# Altium schematic symbol library MCU_NXP_Kinetis.SchLib: 155 symbols (part 1 of 4)
Pins are listed as number, name and electrical type; pins without a type are passive.

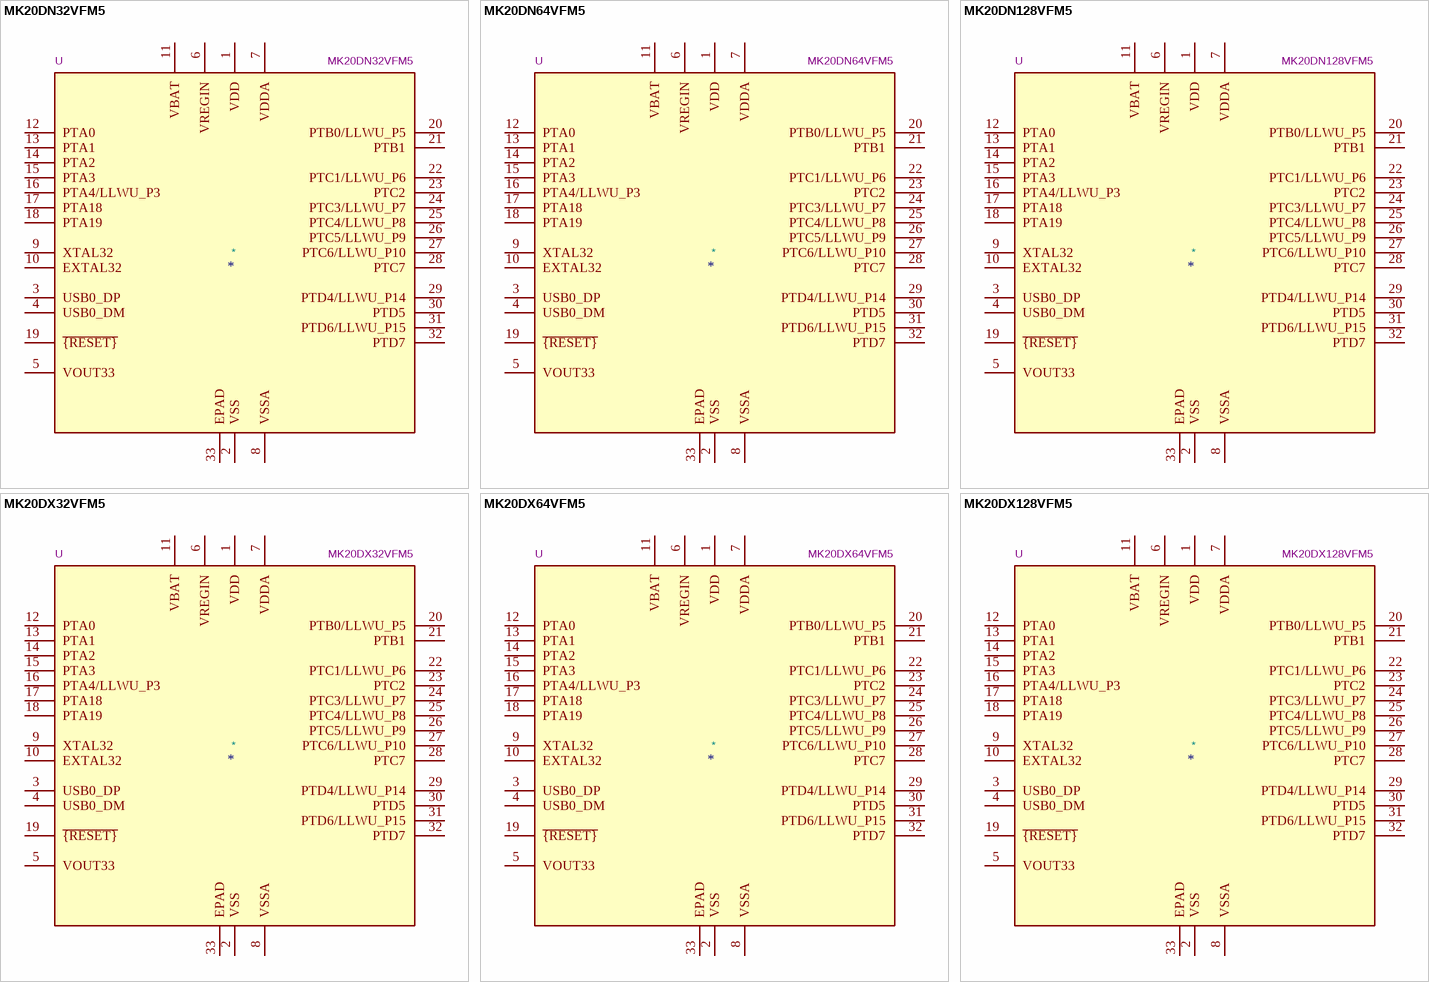
[diagram p0: symbols MK20DN32VFM5 to MK20DX128VFM5]

## MK20DN32VFM5
designator *  value MK20DN32VFM5  Reference: U
ki_keywords: Kinetis KL27 ARM Cortex M4; ki_description: Kinetis K20 series, 50-MHz/32-bit ARM Cortex-M4, 32 kB flash, 8 kB SRAM, USB FS Device/OTG, QFN-32; ki_fp_filters: QFN*5x5mm*P0.5mm*; Footprint: Package_DFN_QFN:QFN-32-1EP_5x5mm_P0.5mm_EP3.45x3.45mm; Datasheet: http://www.nxp.com/docs/en/data-sheet/K20P32M50SF0.pdf
pins: 1 VDD, 2 VSS, 3 USB0_DP, 4 USB0_DM, 5 VOUT33, 6 VREGIN, 7 VDDA, 8 VSSA, 9 XTAL32, 10 EXTAL32, 11 VBAT, 12 PTA0, 13 PTA1, 14 PTA2, 15 PTA3, 16 PTA4/LLWU_P3, 17 PTA18, 18 PTA19, 19 ~{{RESET}}, 20 PTB0/LLWU_P5, 21 PTB1, 22 PTC1/LLWU_P6, 23 PTC2, 24 PTC3/LLWU_P7, 25 PTC4/LLWU_P8, 26 PTC5/LLWU_P9, 27 PTC6/LLWU_P10, 28 PTC7, 29 PTD4/LLWU_P14, 30 PTD5, 31 PTD6/LLWU_P15, 32 PTD7, 33 EPAD

## MK20DN64VFM5
designator *  value MK20DN64VFM5  Reference: U
ki_keywords: Kinetis KL27 ARM Cortex M4; ki_description: Kinetis K20 series, 50-MHz/32-bit ARM Cortex-M4, 64 kB flash, 16 kB SRAM, USB FS Device/OTG, QFN-32; ki_fp_filters: QFN*5x5mm*P0.5mm*; Footprint: Package_DFN_QFN:QFN-32-1EP_5x5mm_P0.5mm_EP3.45x3.45mm; Datasheet: http://www.nxp.com/docs/en/data-sheet/K20P32M50SF0.pdf
pins: 1 VDD, 2 VSS, 3 USB0_DP, 4 USB0_DM, 5 VOUT33, 6 VREGIN, 7 VDDA, 8 VSSA, 9 XTAL32, 10 EXTAL32, 11 VBAT, 12 PTA0, 13 PTA1, 14 PTA2, 15 PTA3, 16 PTA4/LLWU_P3, 17 PTA18, 18 PTA19, 19 ~{{RESET}}, 20 PTB0/LLWU_P5, 21 PTB1, 22 PTC1/LLWU_P6, 23 PTC2, 24 PTC3/LLWU_P7, 25 PTC4/LLWU_P8, 26 PTC5/LLWU_P9, 27 PTC6/LLWU_P10, 28 PTC7, 29 PTD4/LLWU_P14, 30 PTD5, 31 PTD6/LLWU_P15, 32 PTD7, 33 EPAD

## MK20DN128VFM5
designator *  value MK20DN128VFM5  Reference: U
ki_keywords: Kinetis KL27 ARM Cortex M4; ki_description: Kinetis K20 series, 50-MHz/32-bit ARM Cortex-M4, 128 kB flash, 32 kB SRAM, USB FS Device/OTG, QFN-32; ki_fp_filters: QFN*5x5mm*P0.5mm*; Footprint: Package_DFN_QFN:QFN-32-1EP_5x5mm_P0.5mm_EP3.45x3.45mm; Datasheet: http://www.nxp.com/docs/en/data-sheet/K20P32M50SF0.pdf
pins: 1 VDD, 2 VSS, 3 USB0_DP, 4 USB0_DM, 5 VOUT33, 6 VREGIN, 7 VDDA, 8 VSSA, 9 XTAL32, 10 EXTAL32, 11 VBAT, 12 PTA0, 13 PTA1, 14 PTA2, 15 PTA3, 16 PTA4/LLWU_P3, 17 PTA18, 18 PTA19, 19 ~{{RESET}}, 20 PTB0/LLWU_P5, 21 PTB1, 22 PTC1/LLWU_P6, 23 PTC2, 24 PTC3/LLWU_P7, 25 PTC4/LLWU_P8, 26 PTC5/LLWU_P9, 27 PTC6/LLWU_P10, 28 PTC7, 29 PTD4/LLWU_P14, 30 PTD5, 31 PTD6/LLWU_P15, 32 PTD7, 33 EPAD

## MK20DX32VFM5
designator *  value MK20DX32VFM5  Reference: U
ki_keywords: Kinetis KL27 ARM Cortex M4; ki_description: Kinetis K20 series, 50-MHz/32-bit ARM Cortex-M4, 32 kB flash/32 kB FlexNVM, 8 kB SRAM/2 kB FlexRAM, USB FS Device/OTG, QFN-32; ki_fp_filters: QFN*5x5mm*P0.5mm*; Footprint: Package_DFN_QFN:QFN-32-1EP_5x5mm_P0.5mm_EP3.45x3.45mm; Datasheet: http://www.nxp.com/docs/en/data-sheet/K20P32M50SF0.pdf
pins: 1 VDD, 2 VSS, 3 USB0_DP, 4 USB0_DM, 5 VOUT33, 6 VREGIN, 7 VDDA, 8 VSSA, 9 XTAL32, 10 EXTAL32, 11 VBAT, 12 PTA0, 13 PTA1, 14 PTA2, 15 PTA3, 16 PTA4/LLWU_P3, 17 PTA18, 18 PTA19, 19 ~{{RESET}}, 20 PTB0/LLWU_P5, 21 PTB1, 22 PTC1/LLWU_P6, 23 PTC2, 24 PTC3/LLWU_P7, 25 PTC4/LLWU_P8, 26 PTC5/LLWU_P9, 27 PTC6/LLWU_P10, 28 PTC7, 29 PTD4/LLWU_P14, 30 PTD5, 31 PTD6/LLWU_P15, 32 PTD7, 33 EPAD

## MK20DX64VFM5
designator *  value MK20DX64VFM5  Reference: U
ki_keywords: Kinetis KL27 ARM Cortex M4; ki_description: Kinetis K20 series, 50-MHz/32-bit ARM Cortex-M4, 64 kB flash/32 kB FlexNVM, 16 kB SRAM/2 kB FlexRAM, USB FS Device/OTG, QFN-32; ki_fp_filters: QFN*5x5mm*P0.5mm*; Footprint: Package_DFN_QFN:QFN-32-1EP_5x5mm_P0.5mm_EP3.45x3.45mm; Datasheet: http://www.nxp.com/docs/en/data-sheet/K20P32M50SF0.pdf
pins: 1 VDD, 2 VSS, 3 USB0_DP, 4 USB0_DM, 5 VOUT33, 6 VREGIN, 7 VDDA, 8 VSSA, 9 XTAL32, 10 EXTAL32, 11 VBAT, 12 PTA0, 13 PTA1, 14 PTA2, 15 PTA3, 16 PTA4/LLWU_P3, 17 PTA18, 18 PTA19, 19 ~{{RESET}}, 20 PTB0/LLWU_P5, 21 PTB1, 22 PTC1/LLWU_P6, 23 PTC2, 24 PTC3/LLWU_P7, 25 PTC4/LLWU_P8, 26 PTC5/LLWU_P9, 27 PTC6/LLWU_P10, 28 PTC7, 29 PTD4/LLWU_P14, 30 PTD5, 31 PTD6/LLWU_P15, 32 PTD7, 33 EPAD

## MK20DX128VFM5
designator *  value MK20DX128VFM5  Reference: U
ki_keywords: Kinetis KL27 ARM Cortex M4; ki_description: Kinetis K20 series, 50-MHz/32-bit ARM Cortex-M4, 128 kB flash/32 kB FlexNVM, 32 kB SRAM/2 kB FlexRAM, USB FS Device/OTG, QFN-32; ki_fp_filters: QFN*5x5mm*P0.5mm*; Footprint: Package_DFN_QFN:QFN-32-1EP_5x5mm_P0.5mm_EP3.45x3.45mm; Datasheet: http://www.nxp.com/docs/en/data-sheet/K20P32M50SF0.pdf
pins: 1 VDD, 2 VSS, 3 USB0_DP, 4 USB0_DM, 5 VOUT33, 6 VREGIN, 7 VDDA, 8 VSSA, 9 XTAL32, 10 EXTAL32, 11 VBAT, 12 PTA0, 13 PTA1, 14 PTA2, 15 PTA3, 16 PTA4/LLWU_P3, 17 PTA18, 18 PTA19, 19 ~{{RESET}}, 20 PTB0/LLWU_P5, 21 PTB1, 22 PTC1/LLWU_P6, 23 PTC2, 24 PTC3/LLWU_P7, 25 PTC4/LLWU_P8, 26 PTC5/LLWU_P9, 27 PTC6/LLWU_P10, 28 PTC7, 29 PTD4/LLWU_P14, 30 PTD5, 31 PTD6/LLWU_P15, 32 PTD7, 33 EPAD

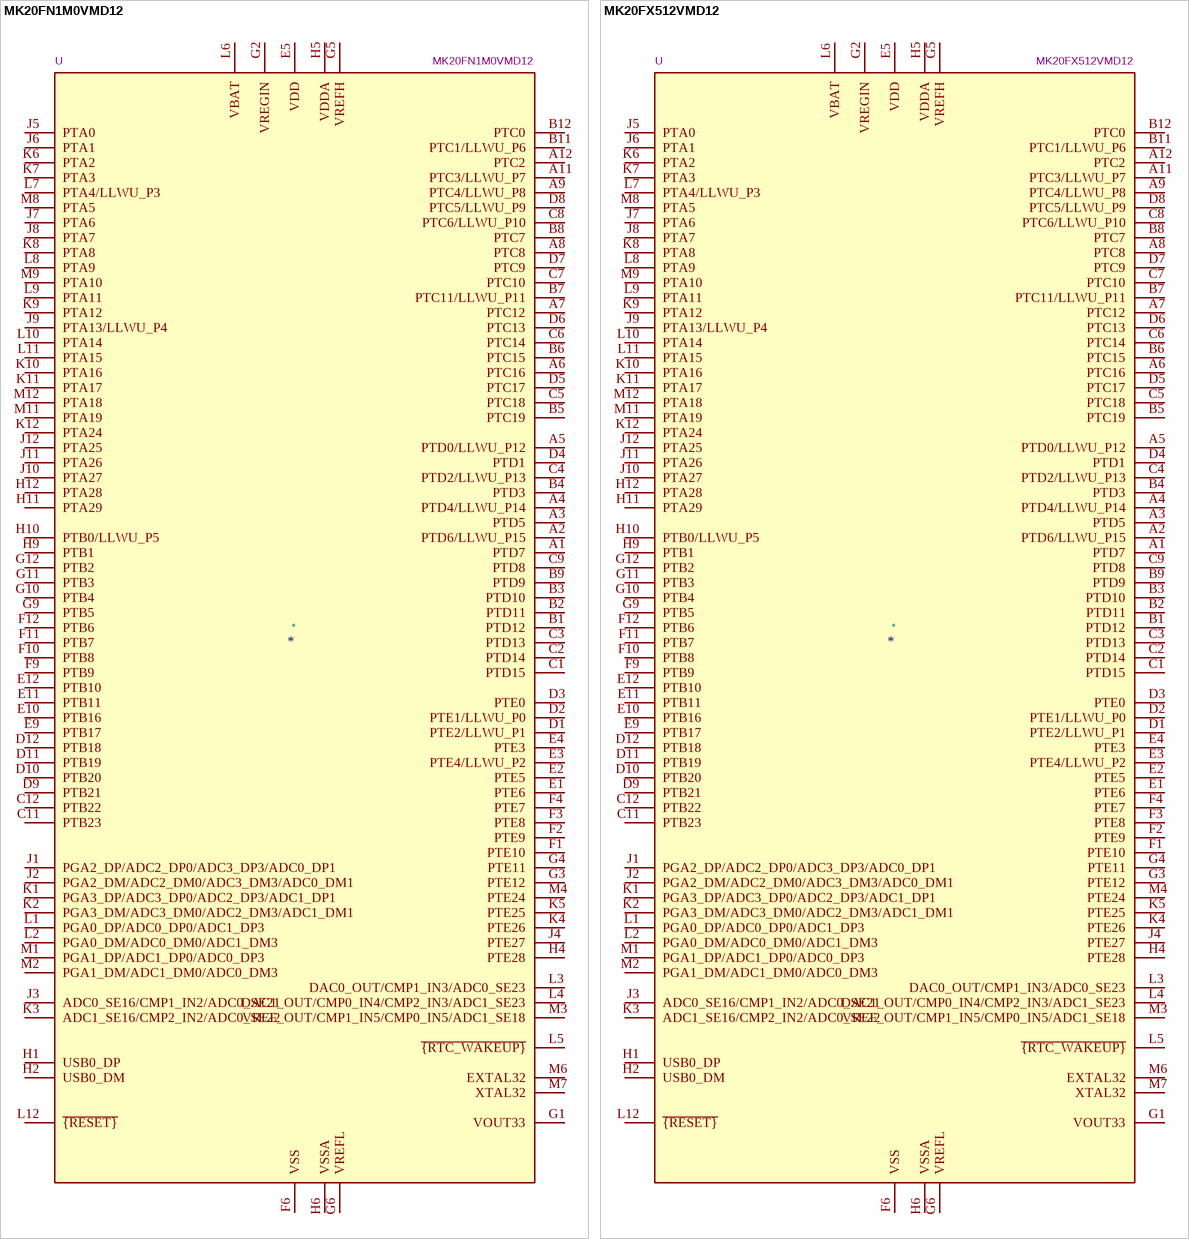
[diagram p1: symbols MK20FN1M0VMD12 to MK20FX512VMD12]

## MK20FN1M0VMD12
designator *  value MK20FN1M0VMD12  Reference: U
ki_keywords: Kinetis K20 ARM Cortex M4; ki_description: Kinetis K20 series, 120-MHz/32-bit ARM Cortex-M4, 1024 kB flash, 128 kB SRAM, USB HS+FS Device/OTG, MAPBGA-144; ki_fp_filters: BGA*13.0x13.0mm*Layout12x12*P1.0mm*; Footprint: Package_BGA:BGA-144_13.0x13.0mm_Layout12x12_P1.0mm; Datasheet: https://www.nxp.com/docs/en/data-sheet/K20P144M120SF3.pdf
pins: A1 PTD7, A2 PTD6/LLWU_P15, A3 PTD5, A4 PTD4/LLWU_P14, A5 PTD0/LLWU_P12, A6 PTC16, A7 PTC12, A8 PTC8, A9 PTC4/LLWU_P8, A10 NC hidden, A11 PTC3/LLWU_P7, A12 PTC2, B1 PTD12, B2 PTD11, B3 PTD10, B4 PTD3, B5 PTC19, B6 PTC15, B7 PTC11/LLWU_P11, B8 PTC7, B9 PTD9, B10 NC hidden, B11 PTC1/LLWU_P6, B12 PTC0, C1 PTD15, C2 PTD14, C3 PTD13, C4 PTD2/LLWU_P13, C5 PTC18, C6 PTC14, C7 PTC10, C8 PTC6/LLWU_P10, C9 PTD8, C10 NC hidden, C11 PTB23, C12 PTB22, D1 PTE2/LLWU_P1, D2 PTE1/LLWU_P0, D3 PTE0, D4 PTD1, D5 PTC17, D6 PTC13, D7 PTC9, D8 PTC5/LLWU_P9, D9 PTB21, D10 PTB20, D11 PTB19, D12 PTB18, E1 PTE6, E2 PTE5, E3 PTE4/LLWU_P2, E4 PTE3, E5 VDD, E6 VDD hidden, E7 VDD hidden, E8 VDD hidden, E9 PTB17, E10 PTB16, E11 PTB11, E12 PTB10, F1 PTE10, F2 PTE9, F3 PTE8, F4 PTE7, F5 VDD hidden, F6 VSS, F7 VSS hidden, F8 VDD hidden, F9 PTB9, F10 PTB8, F11 PTB7, F12 PTB6, G1 VOUT33, G2 VREGIN, G3 PTE12, G4 PTE11, G5 VREFH, G6 VREFL, G7 VSS hidden, G8 VSS hidden, G9 PTB5, G10 PTB4, G11 PTB3, G12 PTB2, H1 USB0_DP, H2 USB0_DM, H3 VSS hidden, H4 PTE28, H5 VDDA, H6 VSSA, H7 VSS hidden, H8 VSS hidden, H9 PTB1, H10 PTB0/LLWU_P5, H11 PTA29, H12 PTA28, J1 PGA2_DP/ADC2_DP0/ADC3_DP3/ADC0_DP1, J2 PGA2_DM/ADC2_DM0/ADC3_DM3/ADC0_DM1, J3 ADC0_SE16/CMP1_IN2/ADC0_SE21, J4 PTE27, J5 PTA0, J6 PTA1, J7 PTA6, J8 PTA7, J9 PTA13/LLWU_P4, J10 PTA27, J11 PTA26, J12 PTA25, K1 PGA3_DP/ADC3_DP0/ADC2_DP3/ADC1_DP1, K2 PGA3_DM/ADC3_DM0/ADC2_DM3/ADC1_DM1, K3 ADC1_SE16/CMP2_IN2/ADC0_SE22, K4 PTE26, K5 PTE25, K6 PTA2, K7 PTA3, K8 PTA8, K9 PTA12, K10 PTA16, K11 PTA17, K12 PTA24, L1 PGA0_DP/ADC0_DP0/ADC1_DP3, L2 PGA0_DM/ADC0_DM0/ADC1_DM3, L3 DAC0_OUT/CMP1_IN3/ADC0_SE23, L4 DAC1_OUT/CMP0_IN4/CMP2_IN3/ADC1_SE23, L5 ~{{RTC_WAKEUP}}, L6 VBAT, L7 PTA4/LLWU_P3, L8 PTA9, L9 PTA11, L10 PTA14, L11 PTA15, L12 ~{{RESET}}, M1 PGA1_DP/ADC1_DP0/ADC0_DP3, M2 PGA1_DM/ADC1_DM0/ADC0_DM3, M3 VREF_OUT/CMP1_IN5/CMP0_IN5/ADC1_SE18, M4 PTE24, M5 NC hidden, M6 EXTAL32, M7 XTAL32, M8 PTA5, M9 PTA10, M10 VSS hidden, M11 PTA19, M12 PTA18

## MK20FX512VMD12
designator *  value MK20FX512VMD12  Reference: U
ki_keywords: Kinetis K20 ARM Cortex M4; ki_description: Kinetis K20 series, 120-MHz/32-bit ARM Cortex-M4, 512 kB flash, 512 kB FlexNVM, 128 kB SRAM, 16 kB FlexRAM, USB HS+FS Device/OTG, MAPBGA-144; ki_fp_filters: BGA*13.0x13.0mm*Layout12x12*P1.0mm*; Footprint: Package_BGA:BGA-144_13.0x13.0mm_Layout12x12_P1.0mm; Datasheet: https://www.nxp.com/docs/en/data-sheet/K20P144M120SF3.pdf
pins: A1 PTD7, A2 PTD6/LLWU_P15, A3 PTD5, A4 PTD4/LLWU_P14, A5 PTD0/LLWU_P12, A6 PTC16, A7 PTC12, A8 PTC8, A9 PTC4/LLWU_P8, A10 NC hidden, A11 PTC3/LLWU_P7, A12 PTC2, B1 PTD12, B2 PTD11, B3 PTD10, B4 PTD3, B5 PTC19, B6 PTC15, B7 PTC11/LLWU_P11, B8 PTC7, B9 PTD9, B10 NC hidden, B11 PTC1/LLWU_P6, B12 PTC0, C1 PTD15, C2 PTD14, C3 PTD13, C4 PTD2/LLWU_P13, C5 PTC18, C6 PTC14, C7 PTC10, C8 PTC6/LLWU_P10, C9 PTD8, C10 NC hidden, C11 PTB23, C12 PTB22, D1 PTE2/LLWU_P1, D2 PTE1/LLWU_P0, D3 PTE0, D4 PTD1, D5 PTC17, D6 PTC13, D7 PTC9, D8 PTC5/LLWU_P9, D9 PTB21, D10 PTB20, D11 PTB19, D12 PTB18, E1 PTE6, E2 PTE5, E3 PTE4/LLWU_P2, E4 PTE3, E5 VDD, E6 VDD hidden, E7 VDD hidden, E8 VDD hidden, E9 PTB17, E10 PTB16, E11 PTB11, E12 PTB10, F1 PTE10, F2 PTE9, F3 PTE8, F4 PTE7, F5 VDD hidden, F6 VSS, F7 VSS hidden, F8 VDD hidden, F9 PTB9, F10 PTB8, F11 PTB7, F12 PTB6, G1 VOUT33, G2 VREGIN, G3 PTE12, G4 PTE11, G5 VREFH, G6 VREFL, G7 VSS hidden, G8 VSS hidden, G9 PTB5, G10 PTB4, G11 PTB3, G12 PTB2, H1 USB0_DP, H2 USB0_DM, H3 VSS hidden, H4 PTE28, H5 VDDA, H6 VSSA, H7 VSS hidden, H8 VSS hidden, H9 PTB1, H10 PTB0/LLWU_P5, H11 PTA29, H12 PTA28, J1 PGA2_DP/ADC2_DP0/ADC3_DP3/ADC0_DP1, J2 PGA2_DM/ADC2_DM0/ADC3_DM3/ADC0_DM1, J3 ADC0_SE16/CMP1_IN2/ADC0_SE21, J4 PTE27, J5 PTA0, J6 PTA1, J7 PTA6, J8 PTA7, J9 PTA13/LLWU_P4, J10 PTA27, J11 PTA26, J12 PTA25, K1 PGA3_DP/ADC3_DP0/ADC2_DP3/ADC1_DP1, K2 PGA3_DM/ADC3_DM0/ADC2_DM3/ADC1_DM1, K3 ADC1_SE16/CMP2_IN2/ADC0_SE22, K4 PTE26, K5 PTE25, K6 PTA2, K7 PTA3, K8 PTA8, K9 PTA12, K10 PTA16, K11 PTA17, K12 PTA24, L1 PGA0_DP/ADC0_DP0/ADC1_DP3, L2 PGA0_DM/ADC0_DM0/ADC1_DM3, L3 DAC0_OUT/CMP1_IN3/ADC0_SE23, L4 DAC1_OUT/CMP0_IN4/CMP2_IN3/ADC1_SE23, L5 ~{{RTC_WAKEUP}}, L6 VBAT, L7 PTA4/LLWU_P3, L8 PTA9, L9 PTA11, L10 PTA14, L11 PTA15, L12 ~{{RESET}}, M1 PGA1_DP/ADC1_DP0/ADC0_DP3, M2 PGA1_DM/ADC1_DM0/ADC0_DM3, M3 VREF_OUT/CMP1_IN5/CMP0_IN5/ADC1_SE18, M4 PTE24, M5 NC hidden, M6 EXTAL32, M7 XTAL32, M8 PTA5, M9 PTA10, M10 VSS hidden, M11 PTA19, M12 PTA18

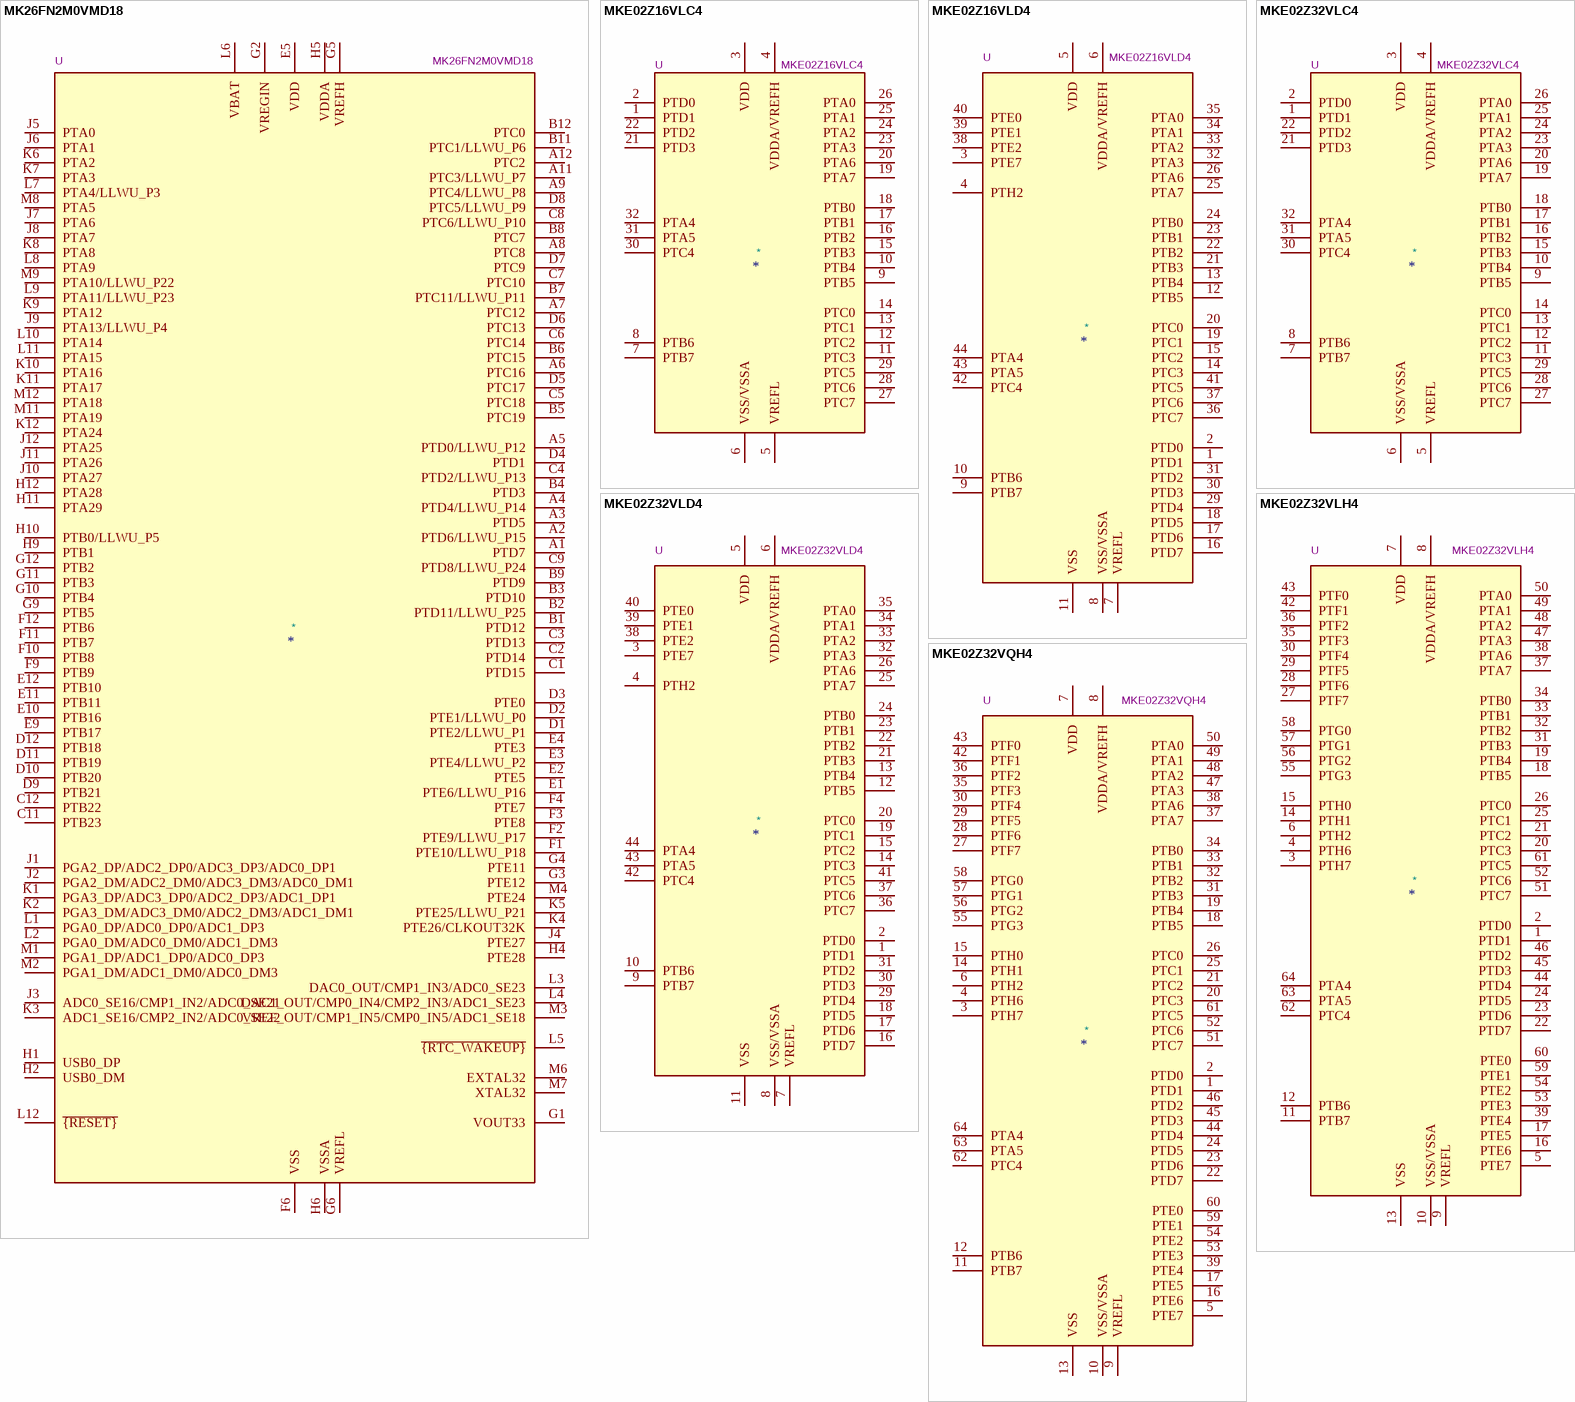
[diagram p2: symbols MK26FN2M0VMD18 to MKE02Z32VQH4]

## MK26FN2M0VMD18
designator *  value MK26FN2M0VMD18  Reference: U
ki_keywords: Kinetis K26 ARM Cortex M4; ki_description: Kinetis K26 series, 180-MHz/32-bit ARM Cortex-M4, 2048 kB flash, 256 kB SRAM, USB HS+FS Device/OTG, MAPBGA-144; ki_fp_filters: BGA*13.0x13.0mm*Layout12x12*P1.0mm*; Footprint: Package_BGA:BGA-144_13.0x13.0mm_Layout12x12_P1.0mm; Datasheet: https://www.nxp.com/docs/en/data-sheet/K26P169M180SF5.pdf
pins: A1 PTD7, A2 PTD6/LLWU_P15, A3 PTD5, A4 PTD4/LLWU_P14, A5 PTD0/LLWU_P12, A6 PTC16, A7 PTC12, A8 PTC8, A9 PTC4/LLWU_P8, A10 NC hidden, A11 PTC3/LLWU_P7, A12 PTC2, B1 PTD12, B2 PTD11/LLWU_P25, B3 PTD10, B4 PTD3, B5 PTC19, B6 PTC15, B7 PTC11/LLWU_P11, B8 PTC7, B9 PTD9, B10 NC hidden, B11 PTC1/LLWU_P6, B12 PTC0, C1 PTD15, C2 PTD14, C3 PTD13, C4 PTD2/LLWU_P13, C5 PTC18, C6 PTC14, C7 PTC10, C8 PTC6/LLWU_P10, C9 PTD8/LLWU_P24, C10 NC hidden, C11 PTB23, C12 PTB22, D1 PTE2/LLWU_P1, D2 PTE1/LLWU_P0, D3 PTE0, D4 PTD1, D5 PTC17, D6 PTC13, D7 PTC9, D8 PTC5/LLWU_P9, D9 PTB21, D10 PTB20, D11 PTB19, D12 PTB18, E1 PTE6/LLWU_P16, E2 PTE5, E3 PTE4/LLWU_P2, E4 PTE3, E5 VDD, E6 VDD hidden, E7 VDD hidden, E8 VDD hidden, E9 PTB17, E10 PTB16, E11 PTB11, E12 PTB10, F1 PTE10/LLWU_P18, F2 PTE9/LLWU_P17, F3 PTE8, F4 PTE7, F5 VDD hidden, F6 VSS, F7 VSS hidden, F8 VDD hidden, F9 PTB9, F10 PTB8, F11 PTB7, F12 PTB6, G1 VOUT33, G2 VREGIN, G3 PTE12, G4 PTE11, G5 VREFH, G6 VREFL, G7 VSS hidden, G8 VSS hidden, G9 PTB5, G10 PTB4, G11 PTB3, G12 PTB2, H1 USB0_DP, H2 USB0_DM, H3 VSS hidden, H4 PTE28, H5 VDDA, H6 VSSA, H7 VSS hidden, H8 VSS hidden, H9 PTB1, H10 PTB0/LLWU_P5, H11 PTA29, H12 PTA28, J1 PGA2_DP/ADC2_DP0/ADC3_DP3/ADC0_DP1, J2 PGA2_DM/ADC2_DM0/ADC3_DM3/ADC0_DM1, J3 ADC0_SE16/CMP1_IN2/ADC0_SE21, J4 PTE27, J5 PTA0, J6 PTA1, J7 PTA6, J8 PTA7, J9 PTA13/LLWU_P4, J10 PTA27, J11 PTA26, J12 PTA25, K1 PGA3_DP/ADC3_DP0/ADC2_DP3/ADC1_DP1, K2 PGA3_DM/ADC3_DM0/ADC2_DM3/ADC1_DM1, K3 ADC1_SE16/CMP2_IN2/ADC0_SE22, K4 PTE26/CLKOUT32K, K5 PTE25/LLWU_P21, K6 PTA2, K7 PTA3, K8 PTA8, K9 PTA12, K10 PTA16, K11 PTA17, K12 PTA24, L1 PGA0_DP/ADC0_DP0/ADC1_DP3, L2 PGA0_DM/ADC0_DM0/ADC1_DM3, L3 DAC0_OUT/CMP1_IN3/ADC0_SE23, L4 DAC1_OUT/CMP0_IN4/CMP2_IN3/ADC1_SE23, L5 ~{{RTC_WAKEUP}}, L6 VBAT, L7 PTA4/LLWU_P3, L8 PTA9, L9 PTA11/LLWU_P23, L10 PTA14, L11 PTA15, L12 ~{{RESET}}, M1 PGA1_DP/ADC1_DP0/ADC0_DP3, M2 PGA1_DM/ADC1_DM0/ADC0_DM3, M3 VREF_OUT/CMP1_IN5/CMP0_IN5/ADC1_SE18, M4 PTE24, M5 NC hidden, M6 EXTAL32, M7 XTAL32, M8 PTA5, M9 PTA10/LLWU_P22, M10 VSS hidden, M11 PTA19, M12 PTA18

## MKE02Z16VLC4
designator *  value MKE02Z16VLC4  Reference: U
ki_keywords: NXP Kinetis Microcontroller; ki_description: 40 MHz, Entry-Level, High-Robustness, ESD/EMC performance Microcontroller, Cortex-M0+ core, 16kB Flash, 2kB RAM, LQFP-32; ki_fp_filters: LQFP*7x7mm*P0.8mm*; Footprint: Package_QFP:LQFP-32_7x7mm_P0.8mm; Datasheet: https://www.nxp.com/files-static/microcontrollers/doc/ref_manual/MKE02P64M40SF0RM.pdf
pins: 1 PTD1, 2 PTD0, 3 VDD, 4 VDDA/VREFH, 5 VREFL, 6 VSS/VSSA, 7 PTB7, 8 PTB6, 9 PTB5, 10 PTB4, 11 PTC3, 12 PTC2, 13 PTC1, 14 PTC0, 15 PTB3, 16 PTB2, 17 PTB1, 18 PTB0, 19 PTA7, 20 PTA6, 21 PTD3, 22 PTD2, 23 PTA3, 24 PTA2, 25 PTA1, 26 PTA0, 27 PTC7, 28 PTC6, 29 PTC5, 30 PTC4, 31 PTA5, 32 PTA4

## MKE02Z16VLD4
designator *  value MKE02Z16VLD4  Reference: U
ki_keywords: NXP Kinetis Microcontroller; ki_description: 40 MHz, Entry-Level, High-Robustness, ESD/EMC performance Microcontroller, Cortex-M0+ core, 16kB Flash, 2kB RAM, LQFP-44; ki_fp_filters: LQFP*10x10mm*P0.8mm*; Footprint: Package_QFP:LQFP-44_10x10mm_P0.8mm; Datasheet: https://www.nxp.com/files-static/microcontrollers/doc/ref_manual/MKE02P64M40SF0RM.pdf
pins: 1 PTD1, 2 PTD0, 3 PTE7, 4 PTH2, 5 VDD, 6 VDDA/VREFH, 7 VREFL, 8 VSS/VSSA, 9 PTB7, 10 PTB6, 11 VSS, 12 PTB5, 13 PTB4, 14 PTC3, 15 PTC2, 16 PTD7, 17 PTD6, 18 PTD5, 19 PTC1, 20 PTC0, 21 PTB3, 22 PTB2, 23 PTB1, 24 PTB0, 25 PTA7, 26 PTA6, 27 VSS hidden, 28 VDD hidden, 29 PTD4, 30 PTD3, 31 PTD2, 32 PTA3, 33 PTA2, 34 PTA1, 35 PTA0, 36 PTC7, 37 PTC6, 38 PTE2, 39 PTE1, 40 PTE0, 41 PTC5, 42 PTC4, 43 PTA5, 44 PTA4

## MKE02Z32VLC4
designator *  value MKE02Z32VLC4  Reference: U
ki_keywords: NXP Kinetis Microcontroller; ki_description: 40 MHz, Entry-Level, High-Robustness, ESD/EMC performance Microcontroller, Cortex-M0+ core, 32kB Flash, 4kB RAM, LQFP-32; ki_fp_filters: LQFP*7x7mm*P0.8mm*; Footprint: Package_QFP:LQFP-32_7x7mm_P0.8mm; Datasheet: https://www.nxp.com/files-static/microcontrollers/doc/ref_manual/MKE02P64M40SF0RM.pdf
pins: 1 PTD1, 2 PTD0, 3 VDD, 4 VDDA/VREFH, 5 VREFL, 6 VSS/VSSA, 7 PTB7, 8 PTB6, 9 PTB5, 10 PTB4, 11 PTC3, 12 PTC2, 13 PTC1, 14 PTC0, 15 PTB3, 16 PTB2, 17 PTB1, 18 PTB0, 19 PTA7, 20 PTA6, 21 PTD3, 22 PTD2, 23 PTA3, 24 PTA2, 25 PTA1, 26 PTA0, 27 PTC7, 28 PTC6, 29 PTC5, 30 PTC4, 31 PTA5, 32 PTA4

## MKE02Z32VLD4
designator *  value MKE02Z32VLD4  Reference: U
ki_keywords: NXP Kinetis Microcontroller; ki_description: 40 MHz, Entry-Level, High-Robustness, ESD/EMC performance Microcontroller, Cortex-M0+ core, 32kB Flash, 4kB RAM, LQFP-44; ki_fp_filters: LQFP*10x10mm*P0.8mm*; Footprint: Package_QFP:LQFP-44_10x10mm_P0.8mm; Datasheet: https://www.nxp.com/files-static/microcontrollers/doc/ref_manual/MKE02P64M40SF0RM.pdf
pins: 1 PTD1, 2 PTD0, 3 PTE7, 4 PTH2, 5 VDD, 6 VDDA/VREFH, 7 VREFL, 8 VSS/VSSA, 9 PTB7, 10 PTB6, 11 VSS, 12 PTB5, 13 PTB4, 14 PTC3, 15 PTC2, 16 PTD7, 17 PTD6, 18 PTD5, 19 PTC1, 20 PTC0, 21 PTB3, 22 PTB2, 23 PTB1, 24 PTB0, 25 PTA7, 26 PTA6, 27 VSS hidden, 28 VDD hidden, 29 PTD4, 30 PTD3, 31 PTD2, 32 PTA3, 33 PTA2, 34 PTA1, 35 PTA0, 36 PTC7, 37 PTC6, 38 PTE2, 39 PTE1, 40 PTE0, 41 PTC5, 42 PTC4, 43 PTA5, 44 PTA4

## MKE02Z32VLH4
designator *  value MKE02Z32VLH4  Reference: U
ki_keywords: NXP Kinetis Microcontroller; ki_description: 40 MHz, Entry-Level, High-Robustness, ESD/EMC performance Microcontroller, Cortex-M0+ core, 32kB Flash, 4kB RAM, LQFP-64; ki_fp_filters: LQFP*10x10mm*P0.5mm*; Footprint: Package_QFP:LQFP-64_10x10mm_P0.5mm; Datasheet: https://www.nxp.com/files-static/microcontrollers/doc/ref_manual/MKE02P64M40SF0RM.pdf
pins: 1 PTD1, 2 PTD0, 3 PTH7, 4 PTH6, 5 PTE7, 6 PTH2, 7 VDD, 8 VDDA/VREFH, 9 VREFL, 10 VSS/VSSA, 11 PTB7, 12 PTB6, 13 VSS, 14 PTH1, 15 PTH0, 16 PTE6, 17 PTE5, 18 PTB5, 19 PTB4, 20 PTC3, 21 PTC2, 22 PTD7, 23 PTD6, 24 PTD5, 25 PTC1, 26 PTC0, 27 PTF7, 28 PTF6, 29 PTF5, 30 PTF4, 31 PTB3, 32 PTB2, 33 PTB1, 34 PTB0, 35 PTF3, 36 PTF2, 37 PTA7, 38 PTA6, 39 PTE4, 40 VSS hidden, 41 VDD hidden, 42 PTF1, 43 PTF0, 44 PTD4, 45 PTD3, 46 PTD2, 47 PTA3, 48 PTA2, 49 PTA1, 50 PTA0, 51 PTC7, 52 PTC6, 53 PTE3, 54 PTE2, 55 PTG3, 56 PTG2, 57 PTG1, 58 PTG0, 59 PTE1, 60 PTE0, 61 PTC5, 62 PTC4, 63 PTA5, 64 PTA4

## MKE02Z32VQH4
designator *  value MKE02Z32VQH4  Reference: U
ki_keywords: NXP Kinetis Microcontroller; ki_description: 40 MHz, Entry-Level, High-Robustness, ESD/EMC performance Microcontroller, Cortex-M0+ core, 32kB Flash, 4kB RAM, TQFP-64; ki_fp_filters: TQFP*14x14mm*P0.8mm*; Footprint: Package_QFP:TQFP-64_14x14mm_P0.8mm; Datasheet: https://www.nxp.com/files-static/microcontrollers/doc/ref_manual/MKE02P64M40SF0RM.pdf
pins: 1 PTD1, 2 PTD0, 3 PTH7, 4 PTH6, 5 PTE7, 6 PTH2, 7 VDD, 8 VDDA/VREFH, 9 VREFL, 10 VSS/VSSA, 11 PTB7, 12 PTB6, 13 VSS, 14 PTH1, 15 PTH0, 16 PTE6, 17 PTE5, 18 PTB5, 19 PTB4, 20 PTC3, 21 PTC2, 22 PTD7, 23 PTD6, 24 PTD5, 25 PTC1, 26 PTC0, 27 PTF7, 28 PTF6, 29 PTF5, 30 PTF4, 31 PTB3, 32 PTB2, 33 PTB1, 34 PTB0, 35 PTF3, 36 PTF2, 37 PTA7, 38 PTA6, 39 PTE4, 40 VSS hidden, 41 VDD hidden, 42 PTF1, 43 PTF0, 44 PTD4, 45 PTD3, 46 PTD2, 47 PTA3, 48 PTA2, 49 PTA1, 50 PTA0, 51 PTC7, 52 PTC6, 53 PTE3, 54 PTE2, 55 PTG3, 56 PTG2, 57 PTG1, 58 PTG0, 59 PTE1, 60 PTE0, 61 PTC5, 62 PTC4, 63 PTA5, 64 PTA4

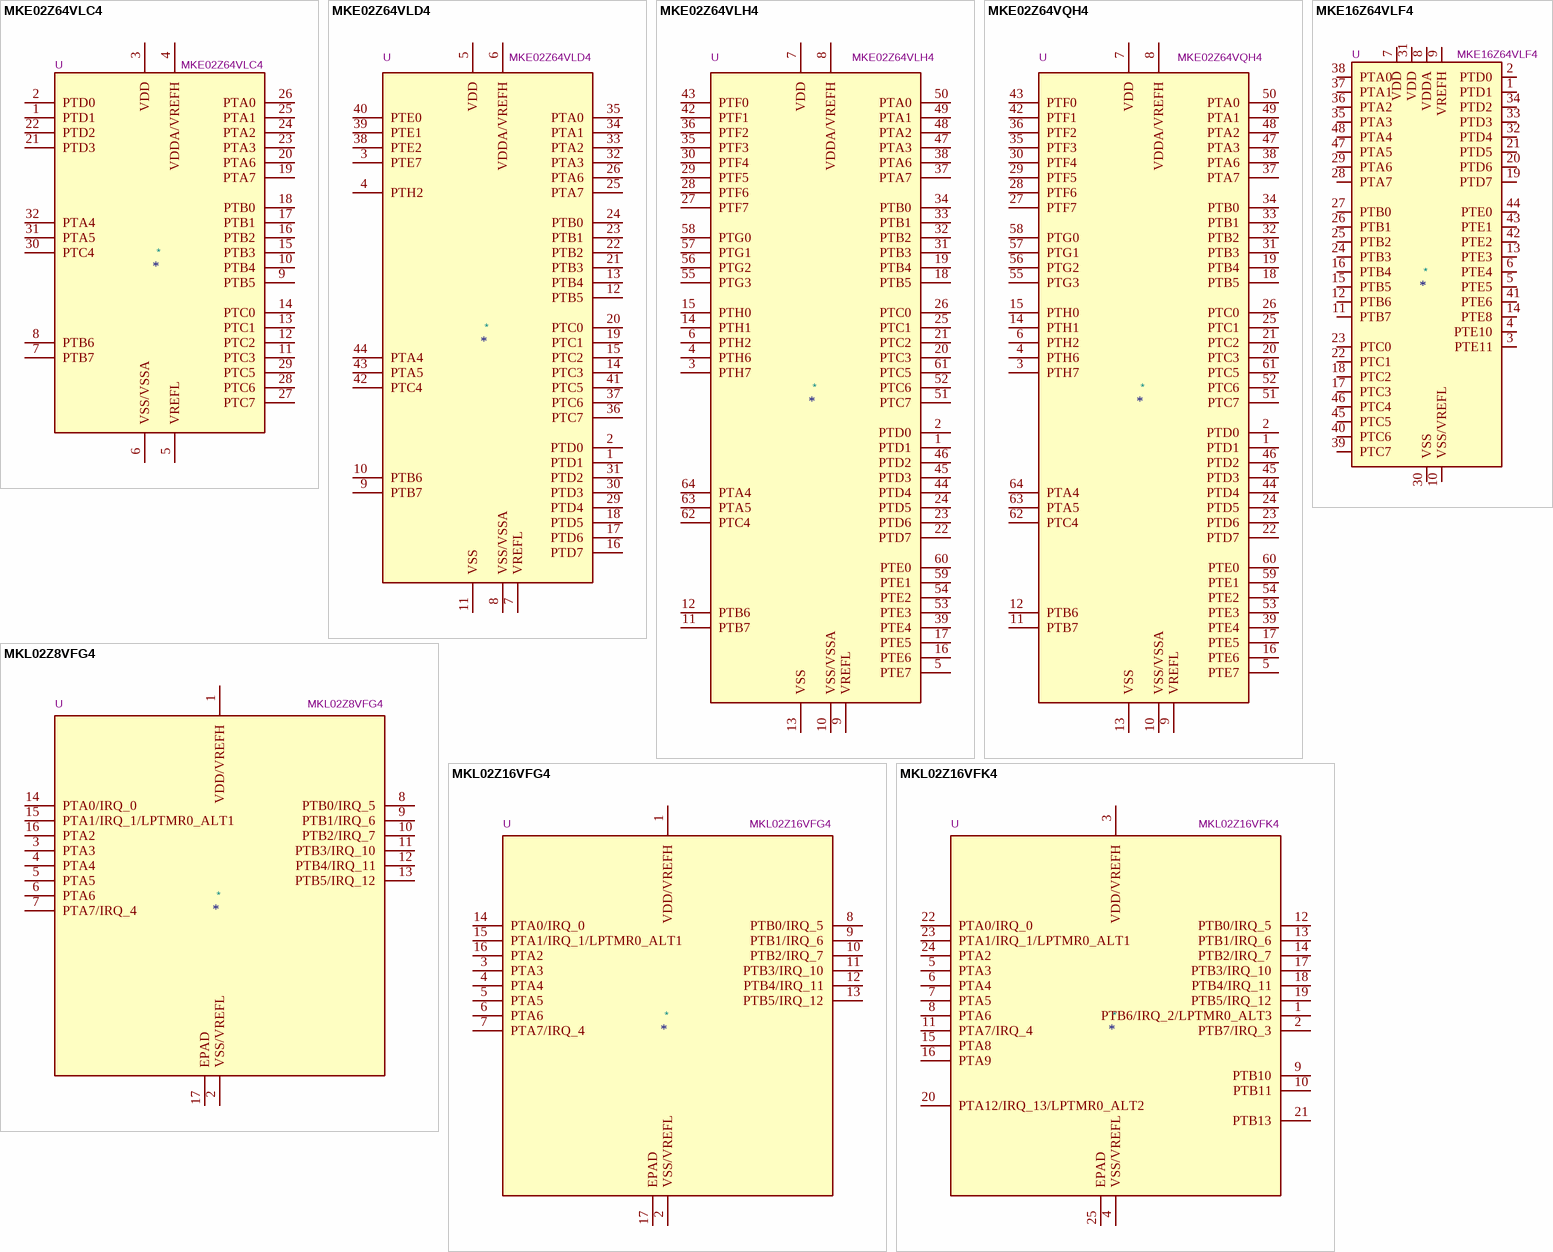
[diagram p3: symbols MKE02Z64VLC4 to MKL02Z16VFK4]

## MKE02Z64VLC4
designator *  value MKE02Z64VLC4  Reference: U
ki_keywords: NXP Kinetis Microcontroller; ki_description: 40 MHz, Entry-Level, High-Robustness, ESD/EMC performance Microcontroller, Cortex-M0+ core, 64kB Flash, 4kB RAM, LQFP-32; ki_fp_filters: LQFP*7x7mm*P0.8mm*; Footprint: Package_QFP:LQFP-32_7x7mm_P0.8mm; Datasheet: https://www.nxp.com/files-static/microcontrollers/doc/ref_manual/MKE02P64M40SF0RM.pdf
pins: 1 PTD1, 2 PTD0, 3 VDD, 4 VDDA/VREFH, 5 VREFL, 6 VSS/VSSA, 7 PTB7, 8 PTB6, 9 PTB5, 10 PTB4, 11 PTC3, 12 PTC2, 13 PTC1, 14 PTC0, 15 PTB3, 16 PTB2, 17 PTB1, 18 PTB0, 19 PTA7, 20 PTA6, 21 PTD3, 22 PTD2, 23 PTA3, 24 PTA2, 25 PTA1, 26 PTA0, 27 PTC7, 28 PTC6, 29 PTC5, 30 PTC4, 31 PTA5, 32 PTA4

## MKE02Z64VLD4
designator *  value MKE02Z64VLD4  Reference: U
ki_keywords: NXP Kinetis Microcontroller; ki_description: 40 MHz, Entry-Level, High-Robustness, ESD/EMC performance Microcontroller, Cortex-M0+ core, 64kB Flash, 4kB RAM, LQFP-44; ki_fp_filters: LQFP*10x10mm*P0.8mm*; Footprint: Package_QFP:LQFP-44_10x10mm_P0.8mm; Datasheet: https://www.nxp.com/files-static/microcontrollers/doc/ref_manual/MKE02P64M40SF0RM.pdf
pins: 1 PTD1, 2 PTD0, 3 PTE7, 4 PTH2, 5 VDD, 6 VDDA/VREFH, 7 VREFL, 8 VSS/VSSA, 9 PTB7, 10 PTB6, 11 VSS, 12 PTB5, 13 PTB4, 14 PTC3, 15 PTC2, 16 PTD7, 17 PTD6, 18 PTD5, 19 PTC1, 20 PTC0, 21 PTB3, 22 PTB2, 23 PTB1, 24 PTB0, 25 PTA7, 26 PTA6, 27 VSS hidden, 28 VDD hidden, 29 PTD4, 30 PTD3, 31 PTD2, 32 PTA3, 33 PTA2, 34 PTA1, 35 PTA0, 36 PTC7, 37 PTC6, 38 PTE2, 39 PTE1, 40 PTE0, 41 PTC5, 42 PTC4, 43 PTA5, 44 PTA4

## MKE02Z64VLH4
designator *  value MKE02Z64VLH4  Reference: U
ki_keywords: NXP Kinetis Microcontroller; ki_description: 40 MHz, Entry-Level, High-Robustness, ESD/EMC performance Microcontroller, Cortex-M0+ core, 64kB Flash, 4kB RAM, LQFP-64; ki_fp_filters: LQFP*10x10mm*P0.5mm*; Footprint: Package_QFP:LQFP-64_10x10mm_P0.5mm; Datasheet: https://www.nxp.com/files-static/microcontrollers/doc/ref_manual/MKE02P64M40SF0RM.pdf
pins: 1 PTD1, 2 PTD0, 3 PTH7, 4 PTH6, 5 PTE7, 6 PTH2, 7 VDD, 8 VDDA/VREFH, 9 VREFL, 10 VSS/VSSA, 11 PTB7, 12 PTB6, 13 VSS, 14 PTH1, 15 PTH0, 16 PTE6, 17 PTE5, 18 PTB5, 19 PTB4, 20 PTC3, 21 PTC2, 22 PTD7, 23 PTD6, 24 PTD5, 25 PTC1, 26 PTC0, 27 PTF7, 28 PTF6, 29 PTF5, 30 PTF4, 31 PTB3, 32 PTB2, 33 PTB1, 34 PTB0, 35 PTF3, 36 PTF2, 37 PTA7, 38 PTA6, 39 PTE4, 40 VSS hidden, 41 VDD hidden, 42 PTF1, 43 PTF0, 44 PTD4, 45 PTD3, 46 PTD2, 47 PTA3, 48 PTA2, 49 PTA1, 50 PTA0, 51 PTC7, 52 PTC6, 53 PTE3, 54 PTE2, 55 PTG3, 56 PTG2, 57 PTG1, 58 PTG0, 59 PTE1, 60 PTE0, 61 PTC5, 62 PTC4, 63 PTA5, 64 PTA4

## MKE02Z64VQH4
designator *  value MKE02Z64VQH4  Reference: U
ki_keywords: NXP Kinetis Microcontroller; ki_description: 40 MHz, Entry-Level, High-Robustness, ESD/EMC performance Microcontroller, Cortex-M0+ core, 64kB Flash, 4kB RAM, TQFP-64; ki_fp_filters: TQFP*14x14mm*P0.8mm*; Footprint: Package_QFP:TQFP-64_14x14mm_P0.8mm; Datasheet: https://www.nxp.com/files-static/microcontrollers/doc/ref_manual/MKE02P64M40SF0RM.pdf
pins: 1 PTD1, 2 PTD0, 3 PTH7, 4 PTH6, 5 PTE7, 6 PTH2, 7 VDD, 8 VDDA/VREFH, 9 VREFL, 10 VSS/VSSA, 11 PTB7, 12 PTB6, 13 VSS, 14 PTH1, 15 PTH0, 16 PTE6, 17 PTE5, 18 PTB5, 19 PTB4, 20 PTC3, 21 PTC2, 22 PTD7, 23 PTD6, 24 PTD5, 25 PTC1, 26 PTC0, 27 PTF7, 28 PTF6, 29 PTF5, 30 PTF4, 31 PTB3, 32 PTB2, 33 PTB1, 34 PTB0, 35 PTF3, 36 PTF2, 37 PTA7, 38 PTA6, 39 PTE4, 40 VSS hidden, 41 VDD hidden, 42 PTF1, 43 PTF0, 44 PTD4, 45 PTD3, 46 PTD2, 47 PTA3, 48 PTA2, 49 PTA1, 50 PTA0, 51 PTC7, 52 PTC6, 53 PTE3, 54 PTE2, 55 PTG3, 56 PTG2, 57 PTG1, 58 PTG0, 59 PTE1, 60 PTE0, 61 PTC5, 62 PTC4, 63 PTA5, 64 PTA4

## MKE16Z64VLF4
designator *  value MKE16Z64VLF4  Reference: U
ki_keywords: Kinetis KE16 ARM Cortex M0+; ki_description: Kinetis KE1xZ series, 48-MHz/32-bit ARM Cortex-M0+, 64 kB flash, 8 kB RAM, Mainstream, Touch (TSI) and CAN control, LQFP-48; ki_fp_filters: LQFP*7x7mm*P0.5mm*; Footprint: Package_QFP:LQFP-48_7x7mm_P0.5mm; Datasheet: https://www.nxp.com/docs/en/data-sheet/KE1xZP48M48SF0.pdf
pins: 1 PTD1, 2 PTD0, 3 PTE11, 4 PTE10, 5 PTE5, 6 PTE4, 7 VDD, 8 VDDA, 9 VREFH, 10 VSS/VREFL, 11 PTB7, 12 PTB6, 13 PTE3, 14 PTE8, 15 PTB5, 16 PTB4, 17 PTC3, 18 PTC2, 19 PTD7, 20 PTD6, 21 PTD5, 22 PTC1, 23 PTC0, 24 PTB3, 25 PTB2, 26 PTB1, 27 PTB0, 28 PTA7, 29 PTA6, 30 VSS, 31 VDD, 32 PTD4, 33 PTD3, 34 PTD2, 35 PTA3, 36 PTA2, 37 PTA1, 38 PTA0, 39 PTC7, 40 PTC6, 41 PTE6, 42 PTE2, 43 PTE1, 44 PTE0, 45 PTC5, 46 PTC4, 47 PTA5, 48 PTA4

## MKL02Z8VFG4
designator *  value MKL02Z8VFG4  Reference: U
ki_keywords: Kinetis KL02 ARM Cortex M0+; ki_description: Kinetis KL02 series, 48-MHz/32-bit ARM Cortex-M0+, 8 kB flash, 1 kB SRAM, QFN-16; ki_fp_filters: QFN*1EP*3x3mm*P0.5mm*; Footprint: Package_DFN_QFN:QFN-16-1EP_3x3mm_P0.5mm_EP1.9x1.9mm; Datasheet: http://www.nxp.com/docs/en/data-sheet/KL02P32M48SF0.pdf
pins: 1 VDD/VREFH, 2 VSS/VREFL, 3 PTA3, 4 PTA4, 5 PTA5, 6 PTA6, 7 PTA7/IRQ_4, 8 PTB0/IRQ_5, 9 PTB1/IRQ_6, 10 PTB2/IRQ_7, 11 PTB3/IRQ_10, 12 PTB4/IRQ_11, 13 PTB5/IRQ_12, 14 PTA0/IRQ_0, 15 PTA1/IRQ_1/LPTMR0_ALT1, 16 PTA2, 17 EPAD

## MKL02Z16VFG4
designator *  value MKL02Z16VFG4  Reference: U
ki_keywords: Kinetis KL02 ARM Cortex M0+; ki_description: Kinetis KL02 series, 48-MHz/32-bit ARM Cortex-M0+, 16 kB flash, 2 kB SRAM, QFN-16; ki_fp_filters: QFN*1EP*3x3mm*P0.5mm*; Footprint: Package_DFN_QFN:QFN-16-1EP_3x3mm_P0.5mm_EP1.9x1.9mm; Datasheet: http://www.nxp.com/docs/en/data-sheet/KL02P32M48SF0.pdf
pins: 1 VDD/VREFH, 2 VSS/VREFL, 3 PTA3, 4 PTA4, 5 PTA5, 6 PTA6, 7 PTA7/IRQ_4, 8 PTB0/IRQ_5, 9 PTB1/IRQ_6, 10 PTB2/IRQ_7, 11 PTB3/IRQ_10, 12 PTB4/IRQ_11, 13 PTB5/IRQ_12, 14 PTA0/IRQ_0, 15 PTA1/IRQ_1/LPTMR0_ALT1, 16 PTA2, 17 EPAD

## MKL02Z16VFK4
designator *  value MKL02Z16VFK4  Reference: U
ki_keywords: Kinetis KL02 ARM Cortex M0+; ki_description: Kinetis KL02 series, 48-MHz/32-bit ARM Cortex-M0+, 16 kB flash, 2 kB SRAM, QFN-24; ki_fp_filters: QFN*4x4mm*P0.5mm*; Footprint: Package_DFN_QFN:QFN-24-1EP_4x4mm_P0.5mm_EP2.6x2.6mm; Datasheet: http://www.nxp.com/docs/en/data-sheet/KL02P32M48SF0.pdf
pins: 1 PTB6/IRQ_2/LPTMR0_ALT3, 2 PTB7/IRQ_3, 3 VDD/VREFH, 4 VSS/VREFL, 5 PTA3, 6 PTA4, 7 PTA5, 8 PTA6, 9 PTB10, 10 PTB11, 11 PTA7/IRQ_4, 12 PTB0/IRQ_5, 13 PTB1/IRQ_6, 14 PTB2/IRQ_7, 15 PTA8, 16 PTA9, 17 PTB3/IRQ_10, 18 PTB4/IRQ_11, 19 PTB5/IRQ_12, 20 PTA12/IRQ_13/LPTMR0_ALT2, 21 PTB13, 22 PTA0/IRQ_0, 23 PTA1/IRQ_1/LPTMR0_ALT1, 24 PTA2, 25 EPAD

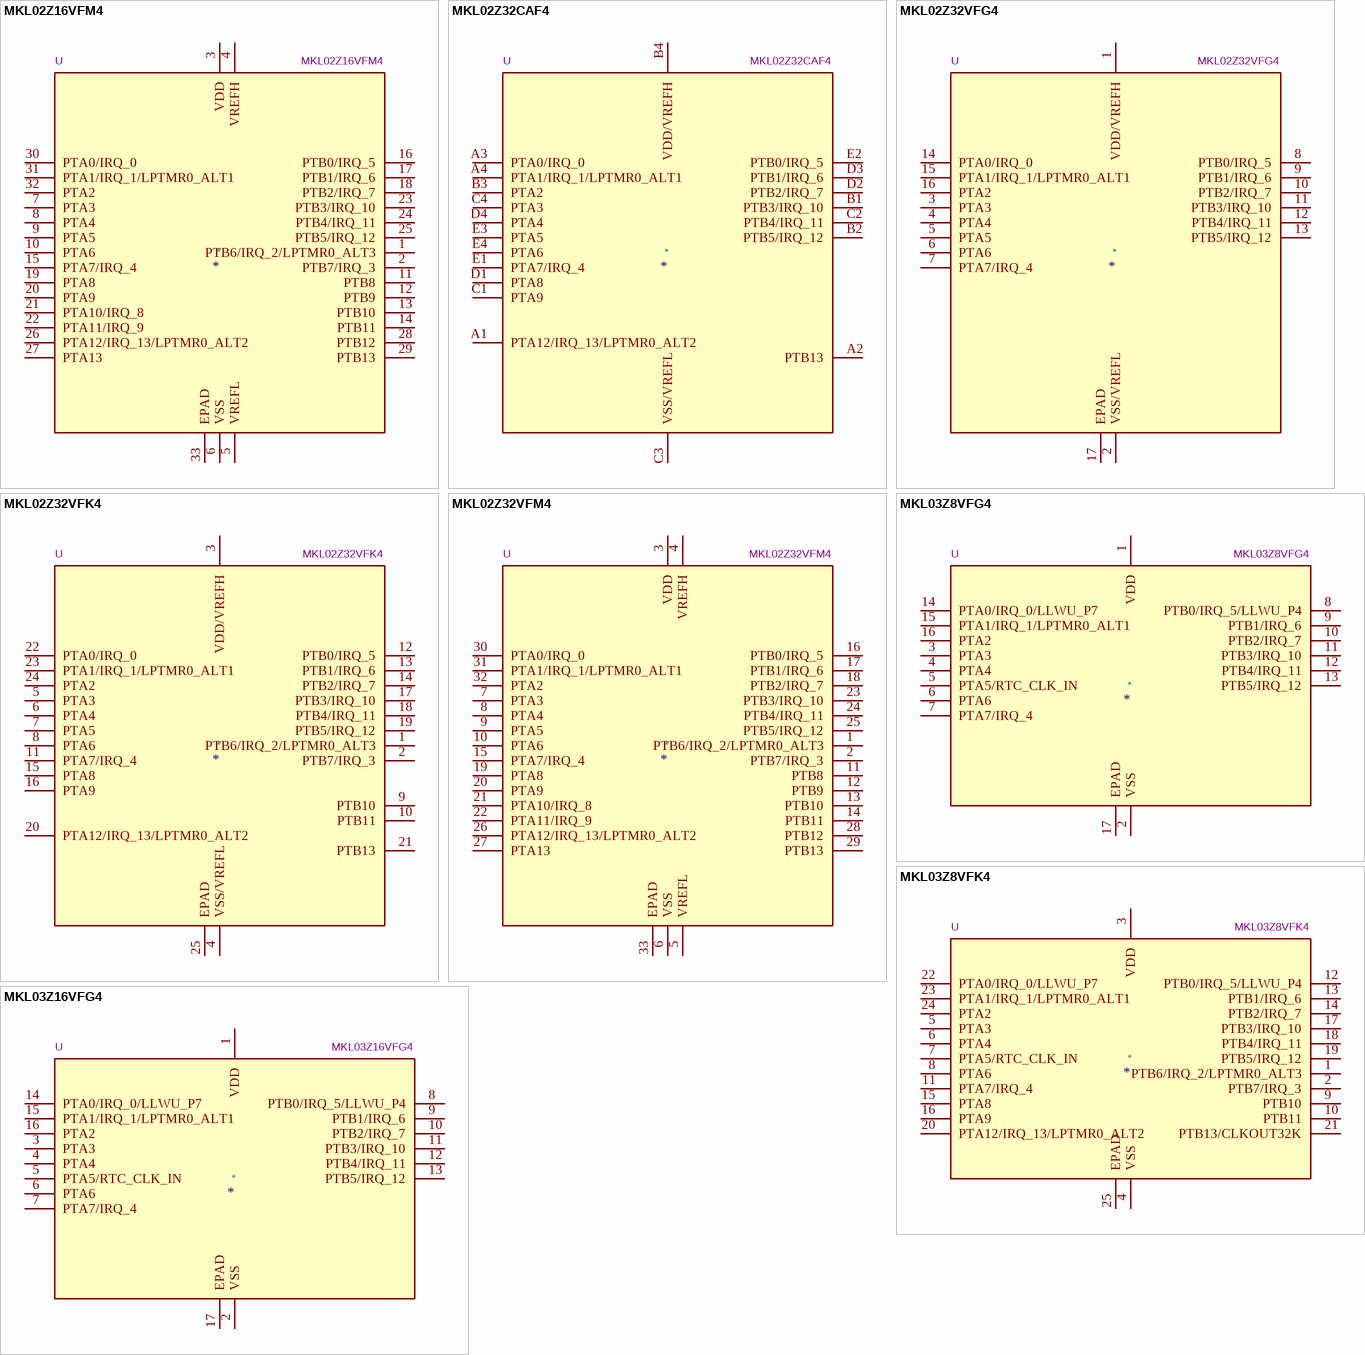
[diagram p4: symbols MKL02Z16VFM4 to MKL03Z16VFG4]

## MKL02Z16VFM4
designator *  value MKL02Z16VFM4  Reference: U
ki_keywords: Kinetis KL02 ARM Cortex M0+; ki_description: Kinetis KL02 series, 48-MHz/32-bit ARM Cortex-M0+, 16 kB flash, 2 kB SRAM, QFN-32; ki_fp_filters: QFN*5x5mm*P0.5mm*; Footprint: Package_DFN_QFN:QFN-32-1EP_5x5mm_P0.5mm_EP3.45x3.45mm; Datasheet: http://www.nxp.com/docs/en/data-sheet/KL02P32M48SF0.pdf
pins: 1 PTB6/IRQ_2/LPTMR0_ALT3, 2 PTB7/IRQ_3, 3 VDD, 4 VREFH, 5 VREFL, 6 VSS, 7 PTA3, 8 PTA4, 9 PTA5, 10 PTA6, 11 PTB8, 12 PTB9, 13 PTB10, 14 PTB11, 15 PTA7/IRQ_4, 16 PTB0/IRQ_5, 17 PTB1/IRQ_6, 18 PTB2/IRQ_7, 19 PTA8, 20 PTA9, 21 PTA10/IRQ_8, 22 PTA11/IRQ_9, 23 PTB3/IRQ_10, 24 PTB4/IRQ_11, 25 PTB5/IRQ_12, 26 PTA12/IRQ_13/LPTMR0_ALT2, 27 PTA13, 28 PTB12, 29 PTB13, 30 PTA0/IRQ_0, 31 PTA1/IRQ_1/LPTMR0_ALT1, 32 PTA2, 33 EPAD

## MKL02Z32CAF4
designator *  value MKL02Z32CAF4  Reference: U
ki_keywords: Kinetis KL02 ARM Cortex M0+; ki_description: Kinetis KL02 series, 48-MHz/32-bit ARM Cortex-M0+, 32 kB flash, 4 kB SRAM, WLCSP-20; ki_fp_filters: WLCSP*1.994x1.94mm*P0.4mm*; Footprint: Package_CSP:WLCSP-20_1.994x1.94mm_Layout4x5_P0.4mm; Datasheet: http://www.nxp.com/docs/en/data-sheet/KL02P20M48SF0.pdf
pins: A1 PTA12/IRQ_13/LPTMR0_ALT2, A2 PTB13, A3 PTA0/IRQ_0, A4 PTA1/IRQ_1/LPTMR0_ALT1, B1 PTB3/IRQ_10, B2 PTB5/IRQ_12, B3 PTA2, B4 VDD/VREFH, C1 PTA9, C2 PTB4/IRQ_11, C3 VSS/VREFL, C4 PTA3, D1 PTA8, D2 PTB2/IRQ_7, D3 PTB1/IRQ_6, D4 PTA4, E1 PTA7/IRQ_4, E2 PTB0/IRQ_5, E3 PTA5, E4 PTA6

## MKL02Z32VFG4
designator *  value MKL02Z32VFG4  Reference: U
ki_keywords: Kinetis KL02 ARM Cortex M0+; ki_description: Kinetis KL02 series, 48-MHz/32-bit ARM Cortex-M0+, 32 kB flash, 4 kB SRAM, QFN-16; ki_fp_filters: QFN*1EP*3x3mm*P0.5mm*; Footprint: Package_DFN_QFN:QFN-16-1EP_3x3mm_P0.5mm_EP1.9x1.9mm; Datasheet: http://www.nxp.com/docs/en/data-sheet/KL02P32M48SF0.pdf
pins: 1 VDD/VREFH, 2 VSS/VREFL, 3 PTA3, 4 PTA4, 5 PTA5, 6 PTA6, 7 PTA7/IRQ_4, 8 PTB0/IRQ_5, 9 PTB1/IRQ_6, 10 PTB2/IRQ_7, 11 PTB3/IRQ_10, 12 PTB4/IRQ_11, 13 PTB5/IRQ_12, 14 PTA0/IRQ_0, 15 PTA1/IRQ_1/LPTMR0_ALT1, 16 PTA2, 17 EPAD

## MKL02Z32VFK4
designator *  value MKL02Z32VFK4  Reference: U
ki_keywords: Kinetis KL02 ARM Cortex M0+; ki_description: Kinetis KL02 series, 48-MHz/32-bit ARM Cortex-M0+, 32 kB flash, 4 kB SRAM, QFN-24; ki_fp_filters: QFN*4x4mm*P0.5mm*; Footprint: Package_DFN_QFN:QFN-24-1EP_4x4mm_P0.5mm_EP2.6x2.6mm; Datasheet: http://www.nxp.com/docs/en/data-sheet/KL02P32M48SF0.pdf
pins: 1 PTB6/IRQ_2/LPTMR0_ALT3, 2 PTB7/IRQ_3, 3 VDD/VREFH, 4 VSS/VREFL, 5 PTA3, 6 PTA4, 7 PTA5, 8 PTA6, 9 PTB10, 10 PTB11, 11 PTA7/IRQ_4, 12 PTB0/IRQ_5, 13 PTB1/IRQ_6, 14 PTB2/IRQ_7, 15 PTA8, 16 PTA9, 17 PTB3/IRQ_10, 18 PTB4/IRQ_11, 19 PTB5/IRQ_12, 20 PTA12/IRQ_13/LPTMR0_ALT2, 21 PTB13, 22 PTA0/IRQ_0, 23 PTA1/IRQ_1/LPTMR0_ALT1, 24 PTA2, 25 EPAD

## MKL02Z32VFM4
designator *  value MKL02Z32VFM4  Reference: U
ki_keywords: Kinetis KL02 ARM Cortex M0+; ki_description: Kinetis KL02 series, 48-MHz/32-bit ARM Cortex-M0+, 32 kB flash, 4 kB SRAM, QFN-32; ki_fp_filters: QFN*5x5mm*P0.5mm*; Footprint: Package_DFN_QFN:QFN-32-1EP_5x5mm_P0.5mm_EP3.45x3.45mm; Datasheet: http://www.nxp.com/docs/en/data-sheet/KL02P32M48SF0.pdf
pins: 1 PTB6/IRQ_2/LPTMR0_ALT3, 2 PTB7/IRQ_3, 3 VDD, 4 VREFH, 5 VREFL, 6 VSS, 7 PTA3, 8 PTA4, 9 PTA5, 10 PTA6, 11 PTB8, 12 PTB9, 13 PTB10, 14 PTB11, 15 PTA7/IRQ_4, 16 PTB0/IRQ_5, 17 PTB1/IRQ_6, 18 PTB2/IRQ_7, 19 PTA8, 20 PTA9, 21 PTA10/IRQ_8, 22 PTA11/IRQ_9, 23 PTB3/IRQ_10, 24 PTB4/IRQ_11, 25 PTB5/IRQ_12, 26 PTA12/IRQ_13/LPTMR0_ALT2, 27 PTA13, 28 PTB12, 29 PTB13, 30 PTA0/IRQ_0, 31 PTA1/IRQ_1/LPTMR0_ALT1, 32 PTA2, 33 EPAD

## MKL03Z8VFG4
designator *  value MKL03Z8VFG4  Reference: U
ki_keywords: Kinetis KL03 ARM Cortex M0+; ki_description: Kinetis KL03 series, 48-MHz/32-bit ARM Cortex-M0+, 8 kB flash, 2 kB SRAM, QFN-16; ki_fp_filters: QFN*1EP*3x3mm*P0.5mm*; Footprint: Package_DFN_QFN:QFN-16-1EP_3x3mm_P0.5mm_EP1.9x1.9mm; Datasheet: http://www.nxp.com/docs/en/data-sheet/KL03P24M48SF0.pdf
pins: 1 VDD, 2 VSS, 3 PTA3, 4 PTA4, 5 PTA5/RTC_CLK_IN, 6 PTA6, 7 PTA7/IRQ_4, 8 PTB0/IRQ_5/LLWU_P4, 9 PTB1/IRQ_6, 10 PTB2/IRQ_7, 11 PTB3/IRQ_10, 12 PTB4/IRQ_11, 13 PTB5/IRQ_12, 14 PTA0/IRQ_0/LLWU_P7, 15 PTA1/IRQ_1/LPTMR0_ALT1, 16 PTA2, 17 EPAD

## MKL03Z8VFK4
designator *  value MKL03Z8VFK4  Reference: U
ki_keywords: Kinetis KL03 ARM Cortex M0+; ki_description: Kinetis KL03 series, 48-MHz/32-bit ARM Cortex-M0+, 8 kB flash, 2 kB SRAM, QFN-24; ki_fp_filters: QFN*4x4mm*P0.5mm*; Footprint: Package_DFN_QFN:QFN-24-1EP_4x4mm_P0.5mm_EP2.6x2.6mm; Datasheet: http://www.nxp.com/docs/en/data-sheet/KL03P24M48SF0.pdf
pins: 1 PTB6/IRQ_2/LPTMR0_ALT3, 2 PTB7/IRQ_3, 3 VDD, 4 VSS, 5 PTA3, 6 PTA4, 7 PTA5/RTC_CLK_IN, 8 PTA6, 9 PTB10, 10 PTB11, 11 PTA7/IRQ_4, 12 PTB0/IRQ_5/LLWU_P4, 13 PTB1/IRQ_6, 14 PTB2/IRQ_7, 15 PTA8, 16 PTA9, 17 PTB3/IRQ_10, 18 PTB4/IRQ_11, 19 PTB5/IRQ_12, 20 PTA12/IRQ_13/LPTMR0_ALT2, 21 PTB13/CLKOUT32K, 22 PTA0/IRQ_0/LLWU_P7, 23 PTA1/IRQ_1/LPTMR0_ALT1, 24 PTA2, 25 EPAD

## MKL03Z16VFG4
designator *  value MKL03Z16VFG4  Reference: U
ki_keywords: Kinetis KL03 ARM Cortex M0+; ki_description: Kinetis KL03 series, 48-MHz/32-bit ARM Cortex-M0+, 16 kB flash, 2 kB SRAM, QFN-16; ki_fp_filters: QFN*1EP*3x3mm*P0.5mm*; Footprint: Package_DFN_QFN:QFN-16-1EP_3x3mm_P0.5mm_EP1.9x1.9mm; Datasheet: http://www.nxp.com/docs/en/data-sheet/KL03P24M48SF0.pdf
pins: 1 VDD, 2 VSS, 3 PTA3, 4 PTA4, 5 PTA5/RTC_CLK_IN, 6 PTA6, 7 PTA7/IRQ_4, 8 PTB0/IRQ_5/LLWU_P4, 9 PTB1/IRQ_6, 10 PTB2/IRQ_7, 11 PTB3/IRQ_10, 12 PTB4/IRQ_11, 13 PTB5/IRQ_12, 14 PTA0/IRQ_0/LLWU_P7, 15 PTA1/IRQ_1/LPTMR0_ALT1, 16 PTA2, 17 EPAD

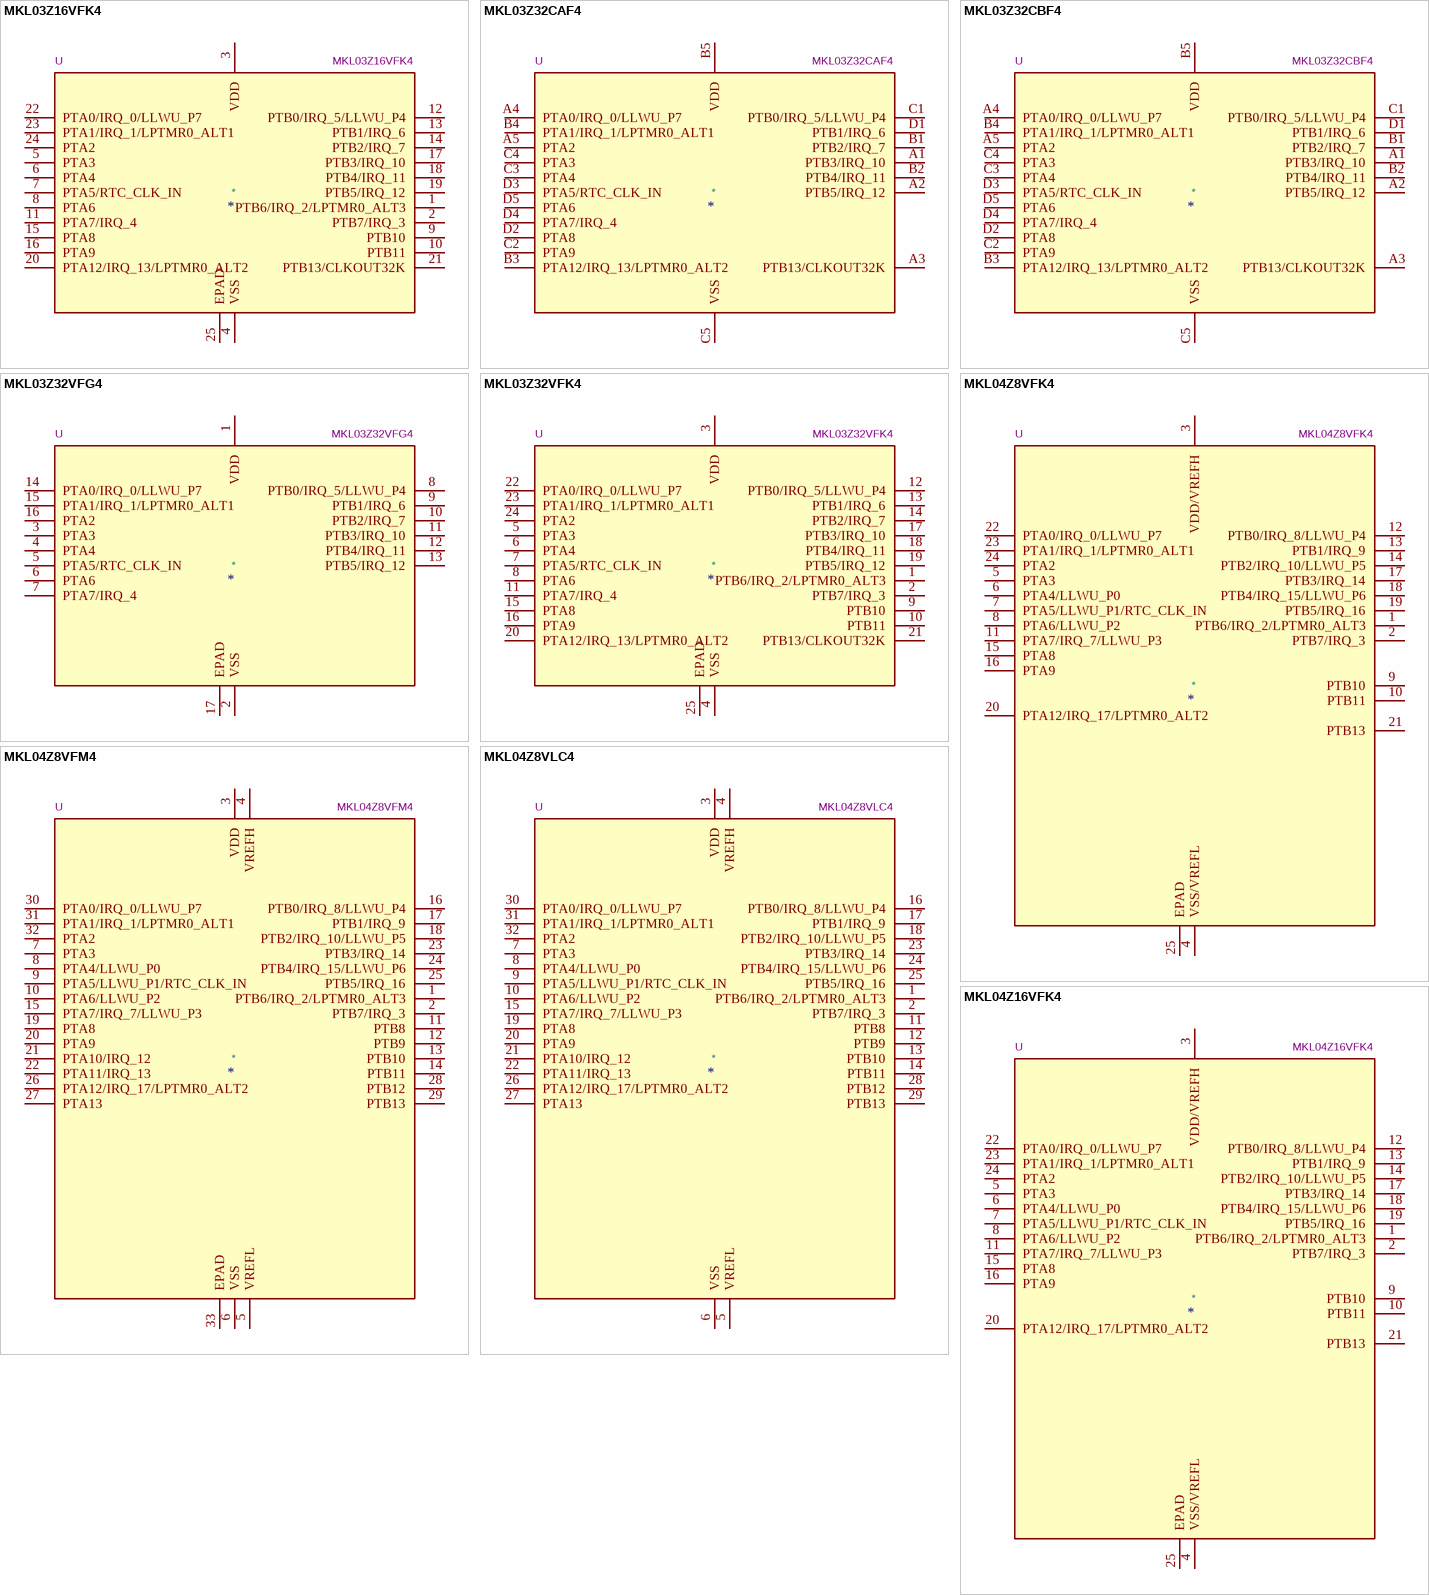
[diagram p5: symbols MKL03Z16VFK4 to MKL04Z16VFK4]

## MKL03Z16VFK4
designator *  value MKL03Z16VFK4  Reference: U
ki_keywords: Kinetis KL03 ARM Cortex M0+; ki_description: Kinetis KL03 series, 48-MHz/32-bit ARM Cortex-M0+, 16 kB flash, 2 kB SRAM, QFN-24; ki_fp_filters: QFN*4x4mm*P0.5mm*; Footprint: Package_DFN_QFN:QFN-24-1EP_4x4mm_P0.5mm_EP2.6x2.6mm; Datasheet: http://www.nxp.com/docs/en/data-sheet/KL03P24M48SF0.pdf
pins: 1 PTB6/IRQ_2/LPTMR0_ALT3, 2 PTB7/IRQ_3, 3 VDD, 4 VSS, 5 PTA3, 6 PTA4, 7 PTA5/RTC_CLK_IN, 8 PTA6, 9 PTB10, 10 PTB11, 11 PTA7/IRQ_4, 12 PTB0/IRQ_5/LLWU_P4, 13 PTB1/IRQ_6, 14 PTB2/IRQ_7, 15 PTA8, 16 PTA9, 17 PTB3/IRQ_10, 18 PTB4/IRQ_11, 19 PTB5/IRQ_12, 20 PTA12/IRQ_13/LPTMR0_ALT2, 21 PTB13/CLKOUT32K, 22 PTA0/IRQ_0/LLWU_P7, 23 PTA1/IRQ_1/LPTMR0_ALT1, 24 PTA2, 25 EPAD

## MKL03Z32CAF4
designator *  value MKL03Z32CAF4  Reference: U
ki_keywords: Kinetis KL03 ARM Cortex M0+; ki_description: Kinetis KL03 series, 48-MHz/32-bit ARM Cortex-M0+, 32 kB flash, 2 kB SRAM, WLCSP-20; ki_fp_filters: WLCSP*1.994x1.609mm*P0.4mm*; Footprint: Package_CSP:WLCSP-20_1.994x1.609mm_Layout5x4_P0.4mm; Datasheet: http://www.nxp.com/docs/en/data-sheet/KL03P24M48SF0.pdf
pins: A1 PTB3/IRQ_10, A2 PTB5/IRQ_12, A3 PTB13/CLKOUT32K, A4 PTA0/IRQ_0/LLWU_P7, A5 PTA2, B1 PTB2/IRQ_7, B2 PTB4/IRQ_11, B3 PTA12/IRQ_13/LPTMR0_ALT2, B4 PTA1/IRQ_1/LPTMR0_ALT1, B5 VDD, C1 PTB0/IRQ_5/LLWU_P4, C2 PTA9, C3 PTA4, C4 PTA3, C5 VSS, D1 PTB1/IRQ_6, D2 PTA8, D3 PTA5/RTC_CLK_IN, D4 PTA7/IRQ_4, D5 PTA6

## MKL03Z32CBF4
designator *  value MKL03Z32CBF4  Reference: U
ki_keywords: Kinetis KL03 ARM Cortex M0+; ki_description: Kinetis KL03 series, 48-MHz/32-bit ARM Cortex-M0+, 32 kB flash, 2 kB SRAM, WLCSP-20; ki_fp_filters: WLCSP*1.994x1.609mm*P0.4mm*; Footprint: Package_CSP:WLCSP-20_1.994x1.609mm_Layout5x4_P0.4mm; Datasheet: http://www.nxp.com/docs/en/data-sheet/KL03P24M48SF0.pdf
pins: A1 PTB3/IRQ_10, A2 PTB5/IRQ_12, A3 PTB13/CLKOUT32K, A4 PTA0/IRQ_0/LLWU_P7, A5 PTA2, B1 PTB2/IRQ_7, B2 PTB4/IRQ_11, B3 PTA12/IRQ_13/LPTMR0_ALT2, B4 PTA1/IRQ_1/LPTMR0_ALT1, B5 VDD, C1 PTB0/IRQ_5/LLWU_P4, C2 PTA9, C3 PTA4, C4 PTA3, C5 VSS, D1 PTB1/IRQ_6, D2 PTA8, D3 PTA5/RTC_CLK_IN, D4 PTA7/IRQ_4, D5 PTA6

## MKL03Z32VFG4
designator *  value MKL03Z32VFG4  Reference: U
ki_keywords: Kinetis KL03 ARM Cortex M0+; ki_description: Kinetis KL03 series, 48-MHz/32-bit ARM Cortex-M0+, 32 kB flash, 2 kB SRAM, QFN-16; ki_fp_filters: QFN*1EP*3x3mm*P0.5mm*; Footprint: Package_DFN_QFN:QFN-16-1EP_3x3mm_P0.5mm_EP1.9x1.9mm; Datasheet: http://www.nxp.com/docs/en/data-sheet/KL03P24M48SF0.pdf
pins: 1 VDD, 2 VSS, 3 PTA3, 4 PTA4, 5 PTA5/RTC_CLK_IN, 6 PTA6, 7 PTA7/IRQ_4, 8 PTB0/IRQ_5/LLWU_P4, 9 PTB1/IRQ_6, 10 PTB2/IRQ_7, 11 PTB3/IRQ_10, 12 PTB4/IRQ_11, 13 PTB5/IRQ_12, 14 PTA0/IRQ_0/LLWU_P7, 15 PTA1/IRQ_1/LPTMR0_ALT1, 16 PTA2, 17 EPAD

## MKL03Z32VFK4
designator *  value MKL03Z32VFK4  Reference: U
ki_keywords: Kinetis KL03 ARM Cortex M0+; ki_description: Kinetis KL03 series, 48-MHz/32-bit ARM Cortex-M0+, 32 kB flash, 2 kB SRAM, QFN-24; ki_fp_filters: QFN*4x4mm*P0.5mm*; Footprint: Package_DFN_QFN:QFN-24-1EP_4x4mm_P0.5mm_EP2.6x2.6mm; Datasheet: http://www.nxp.com/docs/en/data-sheet/KL03P24M48SF0.pdf
pins: 1 PTB6/IRQ_2/LPTMR0_ALT3, 2 PTB7/IRQ_3, 3 VDD, 4 VSS, 5 PTA3, 6 PTA4, 7 PTA5/RTC_CLK_IN, 8 PTA6, 9 PTB10, 10 PTB11, 11 PTA7/IRQ_4, 12 PTB0/IRQ_5/LLWU_P4, 13 PTB1/IRQ_6, 14 PTB2/IRQ_7, 15 PTA8, 16 PTA9, 17 PTB3/IRQ_10, 18 PTB4/IRQ_11, 19 PTB5/IRQ_12, 20 PTA12/IRQ_13/LPTMR0_ALT2, 21 PTB13/CLKOUT32K, 22 PTA0/IRQ_0/LLWU_P7, 23 PTA1/IRQ_1/LPTMR0_ALT1, 24 PTA2, 25 EPAD

## MKL04Z8VFK4
designator *  value MKL04Z8VFK4  Reference: U
ki_keywords: Kinetis KL04 ARM Cortex M0+; ki_description: Kinetis KL04 series, 48-MHz/32-bit ARM Cortex-M0+, 8 kB flash, 1 kB SRAM, QFN-24; ki_fp_filters: QFN*4x4mm*P0.5mm*; Footprint: Package_DFN_QFN:QFN-24-1EP_4x4mm_P0.5mm_EP2.6x2.6mm; Datasheet: http://www.nxp.com/docs/en/data-sheet/KL04P48M48SF1.pdf
pins: 1 PTB6/IRQ_2/LPTMR0_ALT3, 2 PTB7/IRQ_3, 3 VDD/VREFH, 4 VSS/VREFL, 5 PTA3, 6 PTA4/LLWU_P0, 7 PTA5/LLWU_P1/RTC_CLK_IN, 8 PTA6/LLWU_P2, 9 PTB10, 10 PTB11, 11 PTA7/IRQ_7/LLWU_P3, 12 PTB0/IRQ_8/LLWU_P4, 13 PTB1/IRQ_9, 14 PTB2/IRQ_10/LLWU_P5, 15 PTA8, 16 PTA9, 17 PTB3/IRQ_14, 18 PTB4/IRQ_15/LLWU_P6, 19 PTB5/IRQ_16, 20 PTA12/IRQ_17/LPTMR0_ALT2, 21 PTB13, 22 PTA0/IRQ_0/LLWU_P7, 23 PTA1/IRQ_1/LPTMR0_ALT1, 24 PTA2, 25 EPAD

## MKL04Z8VFM4
designator *  value MKL04Z8VFM4  Reference: U
ki_keywords: Kinetis KL04 ARM Cortex M0+; ki_description: Kinetis KL04 series, 48-MHz/32-bit ARM Cortex-M0+, 8 kB flash, 1 kB SRAM, QFN-32; ki_fp_filters: QFN*5x5mm*P0.5mm*; Footprint: Package_DFN_QFN:QFN-32-1EP_5x5mm_P0.5mm_EP3.45x3.45mm; Datasheet: http://www.nxp.com/docs/en/data-sheet/KL04P48M48SF1.pdf
pins: 1 PTB6/IRQ_2/LPTMR0_ALT3, 2 PTB7/IRQ_3, 3 VDD, 4 VREFH, 5 VREFL, 6 VSS, 7 PTA3, 8 PTA4/LLWU_P0, 9 PTA5/LLWU_P1/RTC_CLK_IN, 10 PTA6/LLWU_P2, 11 PTB8, 12 PTB9, 13 PTB10, 14 PTB11, 15 PTA7/IRQ_7/LLWU_P3, 16 PTB0/IRQ_8/LLWU_P4, 17 PTB1/IRQ_9, 18 PTB2/IRQ_10/LLWU_P5, 19 PTA8, 20 PTA9, 21 PTA10/IRQ_12, 22 PTA11/IRQ_13, 23 PTB3/IRQ_14, 24 PTB4/IRQ_15/LLWU_P6, 25 PTB5/IRQ_16, 26 PTA12/IRQ_17/LPTMR0_ALT2, 27 PTA13, 28 PTB12, 29 PTB13, 30 PTA0/IRQ_0/LLWU_P7, 31 PTA1/IRQ_1/LPTMR0_ALT1, 32 PTA2, 33 EPAD

## MKL04Z8VLC4
designator *  value MKL04Z8VLC4  Reference: U
ki_keywords: Kinetis KL04 ARM Cortex M0+; ki_description: Kinetis KL04 series, 48-MHz/32-bit ARM Cortex-M0+, 8 kB flash, 1 kB SRAM, LQFP-32; ki_fp_filters: LQFP*7x7mm*P0.8mm*; Footprint: Package_QFP:LQFP-32_7x7mm_P0.8mm; Datasheet: http://www.nxp.com/docs/en/data-sheet/KL04P48M48SF1.pdf
pins: 1 PTB6/IRQ_2/LPTMR0_ALT3, 2 PTB7/IRQ_3, 3 VDD, 4 VREFH, 5 VREFL, 6 VSS, 7 PTA3, 8 PTA4/LLWU_P0, 9 PTA5/LLWU_P1/RTC_CLK_IN, 10 PTA6/LLWU_P2, 11 PTB8, 12 PTB9, 13 PTB10, 14 PTB11, 15 PTA7/IRQ_7/LLWU_P3, 16 PTB0/IRQ_8/LLWU_P4, 17 PTB1/IRQ_9, 18 PTB2/IRQ_10/LLWU_P5, 19 PTA8, 20 PTA9, 21 PTA10/IRQ_12, 22 PTA11/IRQ_13, 23 PTB3/IRQ_14, 24 PTB4/IRQ_15/LLWU_P6, 25 PTB5/IRQ_16, 26 PTA12/IRQ_17/LPTMR0_ALT2, 27 PTA13, 28 PTB12, 29 PTB13, 30 PTA0/IRQ_0/LLWU_P7, 31 PTA1/IRQ_1/LPTMR0_ALT1, 32 PTA2

## MKL04Z16VFK4
designator *  value MKL04Z16VFK4  Reference: U
ki_keywords: Kinetis KL04 ARM Cortex M0+; ki_description: Kinetis KL04 series, 48-MHz/32-bit ARM Cortex-M0+, 16 kB flash, 2 kB SRAM, QFN-24; ki_fp_filters: QFN*4x4mm*P0.5mm*; Footprint: Package_DFN_QFN:QFN-24-1EP_4x4mm_P0.5mm_EP2.6x2.6mm; Datasheet: http://www.nxp.com/docs/en/data-sheet/KL04P48M48SF1.pdf
pins: 1 PTB6/IRQ_2/LPTMR0_ALT3, 2 PTB7/IRQ_3, 3 VDD/VREFH, 4 VSS/VREFL, 5 PTA3, 6 PTA4/LLWU_P0, 7 PTA5/LLWU_P1/RTC_CLK_IN, 8 PTA6/LLWU_P2, 9 PTB10, 10 PTB11, 11 PTA7/IRQ_7/LLWU_P3, 12 PTB0/IRQ_8/LLWU_P4, 13 PTB1/IRQ_9, 14 PTB2/IRQ_10/LLWU_P5, 15 PTA8, 16 PTA9, 17 PTB3/IRQ_14, 18 PTB4/IRQ_15/LLWU_P6, 19 PTB5/IRQ_16, 20 PTA12/IRQ_17/LPTMR0_ALT2, 21 PTB13, 22 PTA0/IRQ_0/LLWU_P7, 23 PTA1/IRQ_1/LPTMR0_ALT1, 24 PTA2, 25 EPAD

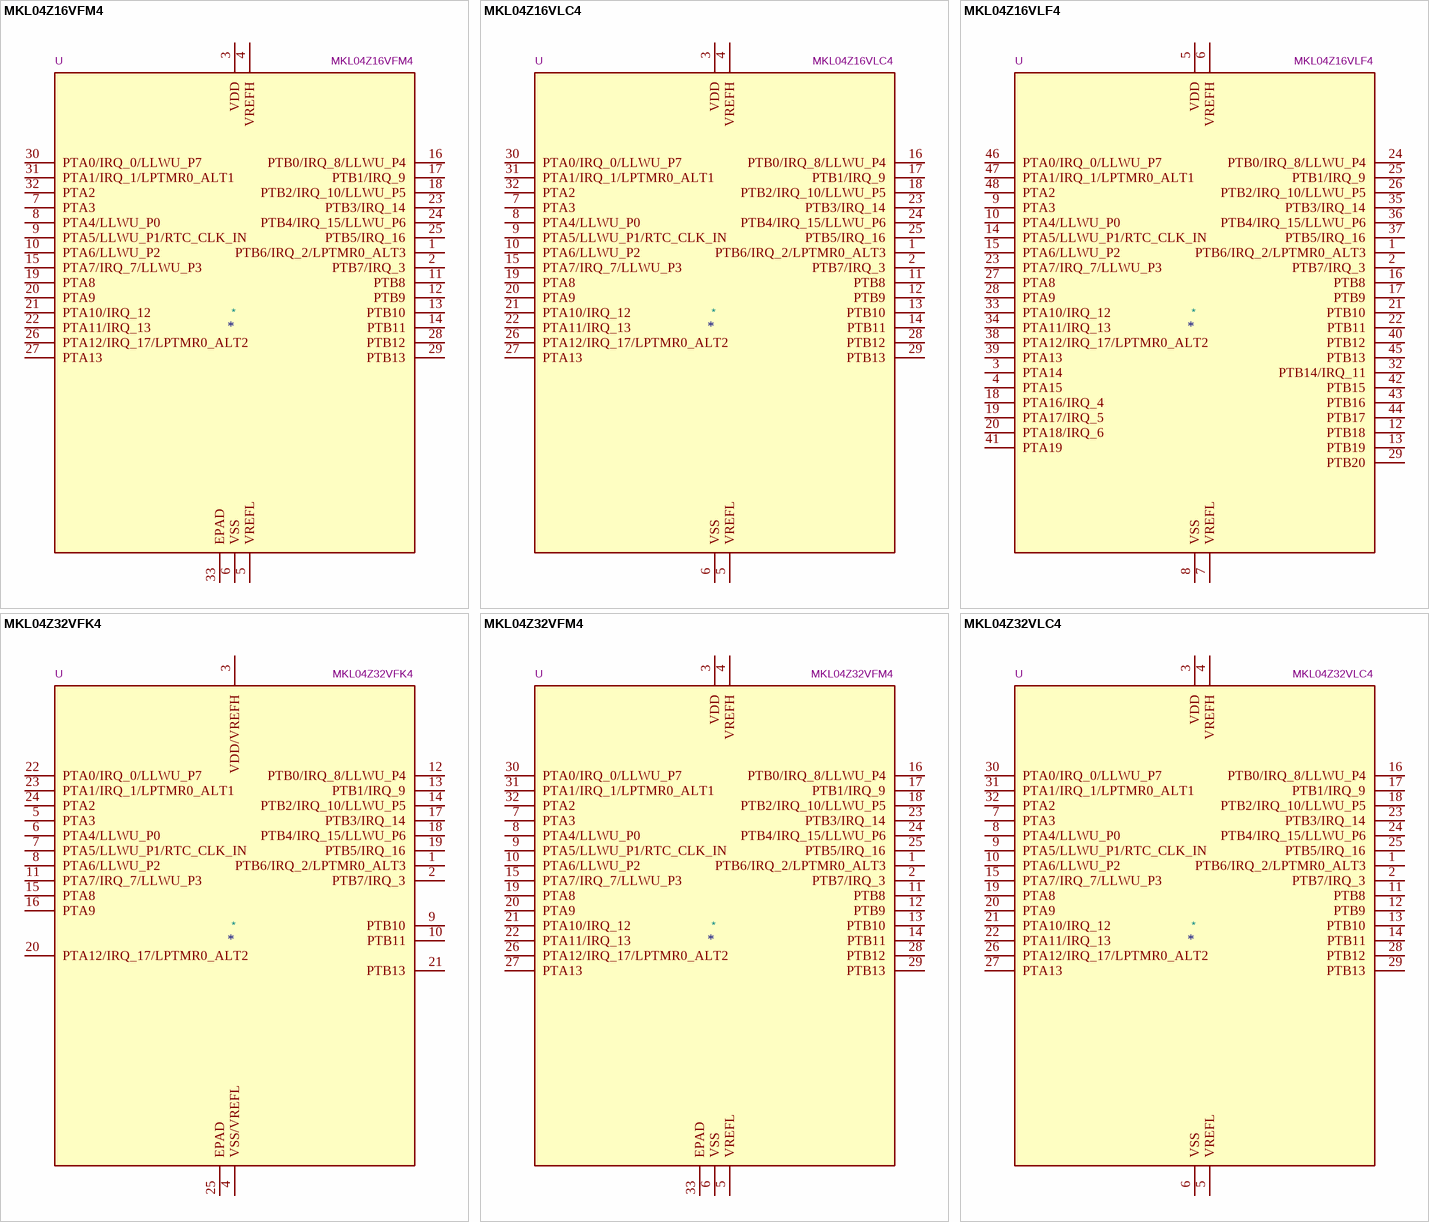
[diagram p6: symbols MKL04Z16VFM4 to MKL04Z32VLC4]

## MKL04Z16VFM4
designator *  value MKL04Z16VFM4  Reference: U
ki_keywords: Kinetis KL04 ARM Cortex M0+; ki_description: Kinetis KL04 series, 48-MHz/32-bit ARM Cortex-M0+, 16 kB flash, 2 kB SRAM, QFN-32; ki_fp_filters: QFN*5x5mm*P0.5mm*; Footprint: Package_DFN_QFN:QFN-32-1EP_5x5mm_P0.5mm_EP3.45x3.45mm; Datasheet: http://www.nxp.com/docs/en/data-sheet/KL04P48M48SF1.pdf
pins: 1 PTB6/IRQ_2/LPTMR0_ALT3, 2 PTB7/IRQ_3, 3 VDD, 4 VREFH, 5 VREFL, 6 VSS, 7 PTA3, 8 PTA4/LLWU_P0, 9 PTA5/LLWU_P1/RTC_CLK_IN, 10 PTA6/LLWU_P2, 11 PTB8, 12 PTB9, 13 PTB10, 14 PTB11, 15 PTA7/IRQ_7/LLWU_P3, 16 PTB0/IRQ_8/LLWU_P4, 17 PTB1/IRQ_9, 18 PTB2/IRQ_10/LLWU_P5, 19 PTA8, 20 PTA9, 21 PTA10/IRQ_12, 22 PTA11/IRQ_13, 23 PTB3/IRQ_14, 24 PTB4/IRQ_15/LLWU_P6, 25 PTB5/IRQ_16, 26 PTA12/IRQ_17/LPTMR0_ALT2, 27 PTA13, 28 PTB12, 29 PTB13, 30 PTA0/IRQ_0/LLWU_P7, 31 PTA1/IRQ_1/LPTMR0_ALT1, 32 PTA2, 33 EPAD

## MKL04Z16VLC4
designator *  value MKL04Z16VLC4  Reference: U
ki_keywords: Kinetis KL04 ARM Cortex M0+; ki_description: Kinetis KL04 series, 48-MHz/32-bit ARM Cortex-M0+, 16 kB flash, 2 kB SRAM, LQFP-32; ki_fp_filters: LQFP*7x7mm*P0.8mm*; Footprint: Package_QFP:LQFP-32_7x7mm_P0.8mm; Datasheet: http://www.nxp.com/docs/en/data-sheet/KL04P48M48SF1.pdf
pins: 1 PTB6/IRQ_2/LPTMR0_ALT3, 2 PTB7/IRQ_3, 3 VDD, 4 VREFH, 5 VREFL, 6 VSS, 7 PTA3, 8 PTA4/LLWU_P0, 9 PTA5/LLWU_P1/RTC_CLK_IN, 10 PTA6/LLWU_P2, 11 PTB8, 12 PTB9, 13 PTB10, 14 PTB11, 15 PTA7/IRQ_7/LLWU_P3, 16 PTB0/IRQ_8/LLWU_P4, 17 PTB1/IRQ_9, 18 PTB2/IRQ_10/LLWU_P5, 19 PTA8, 20 PTA9, 21 PTA10/IRQ_12, 22 PTA11/IRQ_13, 23 PTB3/IRQ_14, 24 PTB4/IRQ_15/LLWU_P6, 25 PTB5/IRQ_16, 26 PTA12/IRQ_17/LPTMR0_ALT2, 27 PTA13, 28 PTB12, 29 PTB13, 30 PTA0/IRQ_0/LLWU_P7, 31 PTA1/IRQ_1/LPTMR0_ALT1, 32 PTA2

## MKL04Z16VLF4
designator *  value MKL04Z16VLF4  Reference: U
ki_keywords: Kinetis KL04 ARM Cortex M0+; ki_description: Kinetis KL04 series, 48-MHz/32-bit ARM Cortex-M0+, 16 kB flash, 2 kB SRAM, LQFP-48; ki_fp_filters: LQFP*7x7mm*P0.5mm*; Footprint: Package_QFP:LQFP-48_7x7mm_P0.5mm; Datasheet: http://www.nxp.com/docs/en/data-sheet/KL04P48M48SF1.pdf
pins: 1 PTB6/IRQ_2/LPTMR0_ALT3, 2 PTB7/IRQ_3, 3 PTA14, 4 PTA15, 5 VDD, 6 VREFH, 7 VREFL, 8 VSS, 9 PTA3, 10 PTA4/LLWU_P0, 11 VSS hidden, 12 PTB18, 13 PTB19, 14 PTA5/LLWU_P1/RTC_CLK_IN, 15 PTA6/LLWU_P2, 16 PTB8, 17 PTB9, 18 PTA16/IRQ_4, 19 PTA17/IRQ_5, 20 PTA18/IRQ_6, 21 PTB10, 22 PTB11, 23 PTA7/IRQ_7/LLWU_P3, 24 PTB0/IRQ_8/LLWU_P4, 25 PTB1/IRQ_9, 26 PTB2/IRQ_10/LLWU_P5, 27 PTA8, 28 PTA9, 29 PTB20, 30 VSS hidden, 31 VDD hidden, 32 PTB14/IRQ_11, 33 PTA10/IRQ_12, 34 PTA11/IRQ_13, 35 PTB3/IRQ_14, 36 PTB4/IRQ_15/LLWU_P6, 37 PTB5/IRQ_16, 38 PTA12/IRQ_17/LPTMR0_ALT2, 39 PTA13, 40 PTB12, 41 PTA19, 42 PTB15, 43 PTB16, 44 PTB17, 45 PTB13, 46 PTA0/IRQ_0/LLWU_P7, 47 PTA1/IRQ_1/LPTMR0_ALT1, 48 PTA2

## MKL04Z32VFK4
designator *  value MKL04Z32VFK4  Reference: U
ki_keywords: Kinetis KL04 ARM Cortex M0+; ki_description: Kinetis KL04 series, 48-MHz/32-bit ARM Cortex-M0+, 32 kB flash, 4 kB SRAM, QFN-24; ki_fp_filters: QFN*4x4mm*P0.5mm*; Footprint: Package_DFN_QFN:QFN-24-1EP_4x4mm_P0.5mm_EP2.6x2.6mm; Datasheet: http://www.nxp.com/docs/en/data-sheet/KL04P48M48SF1.pdf
pins: 1 PTB6/IRQ_2/LPTMR0_ALT3, 2 PTB7/IRQ_3, 3 VDD/VREFH, 4 VSS/VREFL, 5 PTA3, 6 PTA4/LLWU_P0, 7 PTA5/LLWU_P1/RTC_CLK_IN, 8 PTA6/LLWU_P2, 9 PTB10, 10 PTB11, 11 PTA7/IRQ_7/LLWU_P3, 12 PTB0/IRQ_8/LLWU_P4, 13 PTB1/IRQ_9, 14 PTB2/IRQ_10/LLWU_P5, 15 PTA8, 16 PTA9, 17 PTB3/IRQ_14, 18 PTB4/IRQ_15/LLWU_P6, 19 PTB5/IRQ_16, 20 PTA12/IRQ_17/LPTMR0_ALT2, 21 PTB13, 22 PTA0/IRQ_0/LLWU_P7, 23 PTA1/IRQ_1/LPTMR0_ALT1, 24 PTA2, 25 EPAD

## MKL04Z32VFM4
designator *  value MKL04Z32VFM4  Reference: U
ki_keywords: Kinetis KL04 ARM Cortex M0+; ki_description: Kinetis KL04 series, 48-MHz/32-bit ARM Cortex-M0+, 32 kB flash, 4 kB SRAM, QFN-32; ki_fp_filters: QFN*5x5mm*P0.5mm*; Footprint: Package_DFN_QFN:QFN-32-1EP_5x5mm_P0.5mm_EP3.45x3.45mm; Datasheet: http://www.nxp.com/docs/en/data-sheet/KL04P48M48SF1.pdf
pins: 1 PTB6/IRQ_2/LPTMR0_ALT3, 2 PTB7/IRQ_3, 3 VDD, 4 VREFH, 5 VREFL, 6 VSS, 7 PTA3, 8 PTA4/LLWU_P0, 9 PTA5/LLWU_P1/RTC_CLK_IN, 10 PTA6/LLWU_P2, 11 PTB8, 12 PTB9, 13 PTB10, 14 PTB11, 15 PTA7/IRQ_7/LLWU_P3, 16 PTB0/IRQ_8/LLWU_P4, 17 PTB1/IRQ_9, 18 PTB2/IRQ_10/LLWU_P5, 19 PTA8, 20 PTA9, 21 PTA10/IRQ_12, 22 PTA11/IRQ_13, 23 PTB3/IRQ_14, 24 PTB4/IRQ_15/LLWU_P6, 25 PTB5/IRQ_16, 26 PTA12/IRQ_17/LPTMR0_ALT2, 27 PTA13, 28 PTB12, 29 PTB13, 30 PTA0/IRQ_0/LLWU_P7, 31 PTA1/IRQ_1/LPTMR0_ALT1, 32 PTA2, 33 EPAD

## MKL04Z32VLC4
designator *  value MKL04Z32VLC4  Reference: U
ki_keywords: Kinetis KL04 ARM Cortex M0+; ki_description: Kinetis KL04 series, 48-MHz/32-bit ARM Cortex-M0+, 32 kB flash, 4 kB SRAM, LQFP-32; ki_fp_filters: LQFP*7x7mm*P0.8mm*; Footprint: Package_QFP:LQFP-32_7x7mm_P0.8mm; Datasheet: http://www.nxp.com/docs/en/data-sheet/KL04P48M48SF1.pdf
pins: 1 PTB6/IRQ_2/LPTMR0_ALT3, 2 PTB7/IRQ_3, 3 VDD, 4 VREFH, 5 VREFL, 6 VSS, 7 PTA3, 8 PTA4/LLWU_P0, 9 PTA5/LLWU_P1/RTC_CLK_IN, 10 PTA6/LLWU_P2, 11 PTB8, 12 PTB9, 13 PTB10, 14 PTB11, 15 PTA7/IRQ_7/LLWU_P3, 16 PTB0/IRQ_8/LLWU_P4, 17 PTB1/IRQ_9, 18 PTB2/IRQ_10/LLWU_P5, 19 PTA8, 20 PTA9, 21 PTA10/IRQ_12, 22 PTA11/IRQ_13, 23 PTB3/IRQ_14, 24 PTB4/IRQ_15/LLWU_P6, 25 PTB5/IRQ_16, 26 PTA12/IRQ_17/LPTMR0_ALT2, 27 PTA13, 28 PTB12, 29 PTB13, 30 PTA0/IRQ_0/LLWU_P7, 31 PTA1/IRQ_1/LPTMR0_ALT1, 32 PTA2

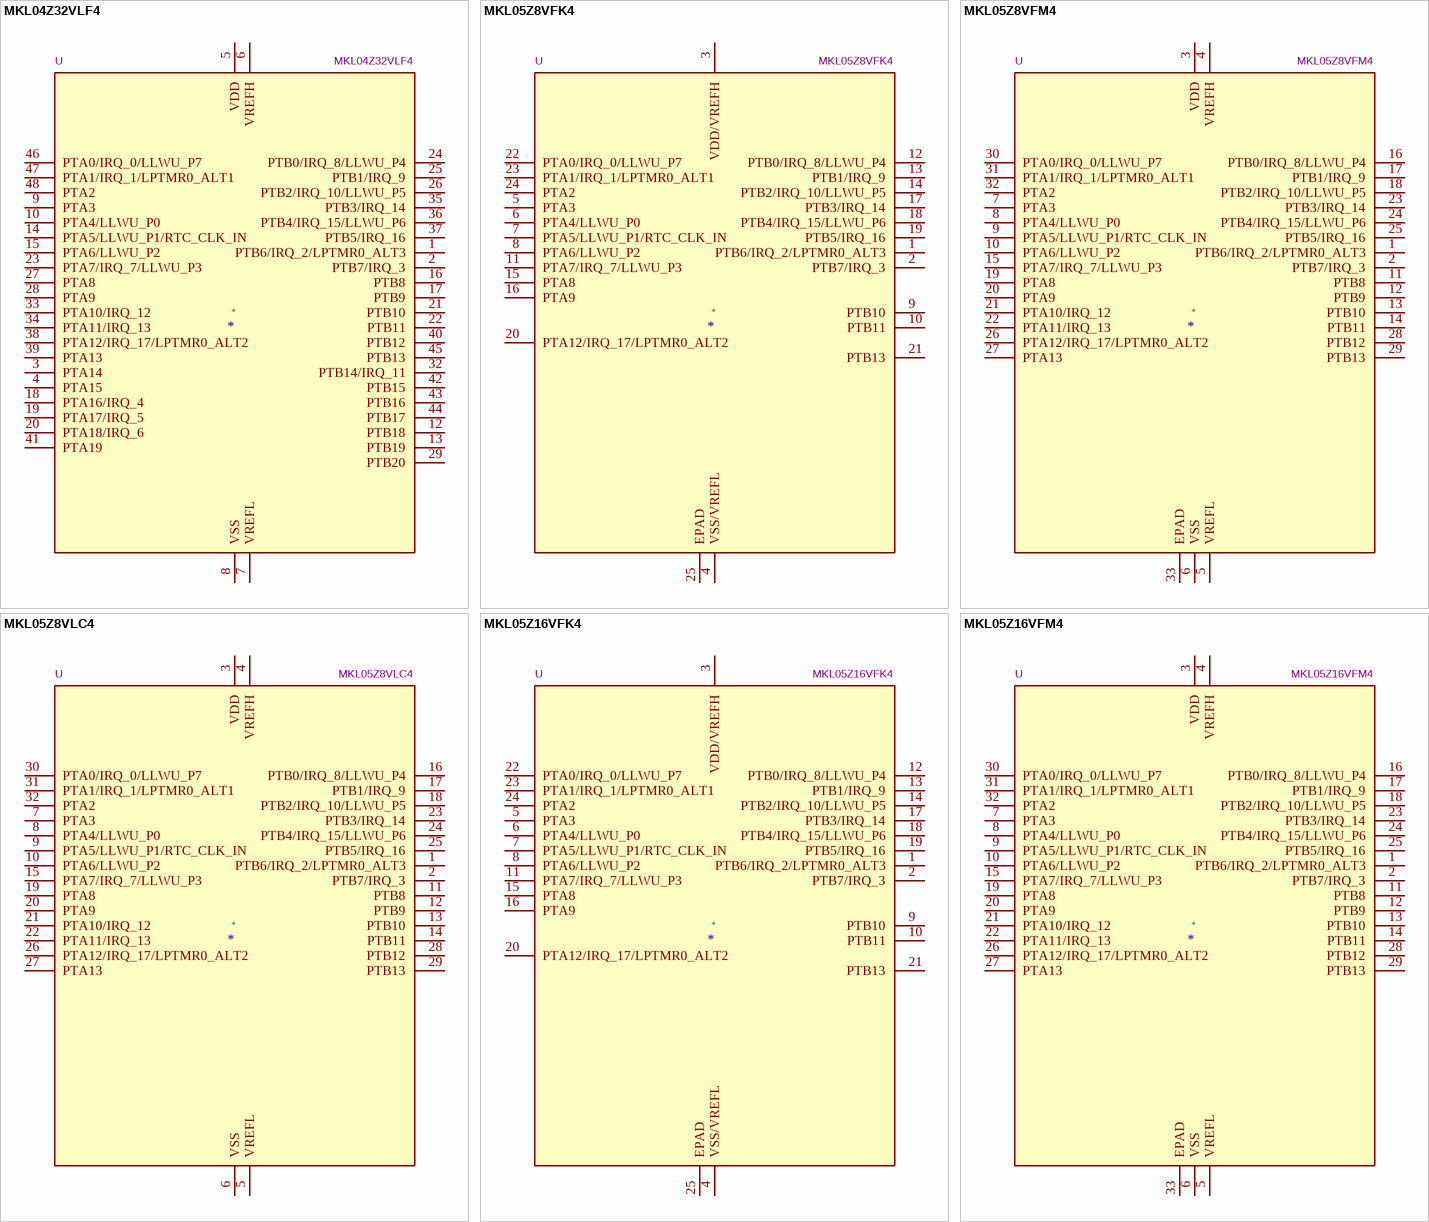
[diagram p7: symbols MKL04Z32VLF4 to MKL05Z16VFM4]

## MKL04Z32VLF4
designator *  value MKL04Z32VLF4  Reference: U
ki_keywords: Kinetis KL04 ARM Cortex M0+; ki_description: Kinetis KL04 series, 48-MHz/32-bit ARM Cortex-M0+, 32 kB flash, 4 kB SRAM, LQFP-48; ki_fp_filters: LQFP*7x7mm*P0.5mm*; Footprint: Package_QFP:LQFP-48_7x7mm_P0.5mm; Datasheet: http://www.nxp.com/docs/en/data-sheet/KL04P48M48SF1.pdf
pins: 1 PTB6/IRQ_2/LPTMR0_ALT3, 2 PTB7/IRQ_3, 3 PTA14, 4 PTA15, 5 VDD, 6 VREFH, 7 VREFL, 8 VSS, 9 PTA3, 10 PTA4/LLWU_P0, 11 VSS hidden, 12 PTB18, 13 PTB19, 14 PTA5/LLWU_P1/RTC_CLK_IN, 15 PTA6/LLWU_P2, 16 PTB8, 17 PTB9, 18 PTA16/IRQ_4, 19 PTA17/IRQ_5, 20 PTA18/IRQ_6, 21 PTB10, 22 PTB11, 23 PTA7/IRQ_7/LLWU_P3, 24 PTB0/IRQ_8/LLWU_P4, 25 PTB1/IRQ_9, 26 PTB2/IRQ_10/LLWU_P5, 27 PTA8, 28 PTA9, 29 PTB20, 30 VSS hidden, 31 VDD hidden, 32 PTB14/IRQ_11, 33 PTA10/IRQ_12, 34 PTA11/IRQ_13, 35 PTB3/IRQ_14, 36 PTB4/IRQ_15/LLWU_P6, 37 PTB5/IRQ_16, 38 PTA12/IRQ_17/LPTMR0_ALT2, 39 PTA13, 40 PTB12, 41 PTA19, 42 PTB15, 43 PTB16, 44 PTB17, 45 PTB13, 46 PTA0/IRQ_0/LLWU_P7, 47 PTA1/IRQ_1/LPTMR0_ALT1, 48 PTA2

## MKL05Z8VFK4
designator *  value MKL05Z8VFK4  Reference: U
ki_keywords: Kinetis KL05 ARM Cortex M0+; ki_description: Kinetis KL05 series, 48-MHz/32-bit ARM Cortex-M0+, 8 kB flash, 1 kB SRAM, QFN-24; ki_fp_filters: QFN*4x4mm*P0.5mm*; Footprint: Package_DFN_QFN:QFN-24-1EP_4x4mm_P0.5mm_EP2.6x2.6mm; Datasheet: http://www.nxp.com/docs/en/data-sheet/KL05P48M48SF1.pdf
pins: 1 PTB6/IRQ_2/LPTMR0_ALT3, 2 PTB7/IRQ_3, 3 VDD/VREFH, 4 VSS/VREFL, 5 PTA3, 6 PTA4/LLWU_P0, 7 PTA5/LLWU_P1/RTC_CLK_IN, 8 PTA6/LLWU_P2, 9 PTB10, 10 PTB11, 11 PTA7/IRQ_7/LLWU_P3, 12 PTB0/IRQ_8/LLWU_P4, 13 PTB1/IRQ_9, 14 PTB2/IRQ_10/LLWU_P5, 15 PTA8, 16 PTA9, 17 PTB3/IRQ_14, 18 PTB4/IRQ_15/LLWU_P6, 19 PTB5/IRQ_16, 20 PTA12/IRQ_17/LPTMR0_ALT2, 21 PTB13, 22 PTA0/IRQ_0/LLWU_P7, 23 PTA1/IRQ_1/LPTMR0_ALT1, 24 PTA2, 25 EPAD

## MKL05Z8VFM4
designator *  value MKL05Z8VFM4  Reference: U
ki_keywords: Kinetis KL05 ARM Cortex M0+; ki_description: Kinetis KL05 series, 48-MHz/32-bit ARM Cortex-M0+, 8 kB flash, 1 kB SRAM, QFN-32; ki_fp_filters: QFN*5x5mm*P0.5mm*; Footprint: Package_DFN_QFN:QFN-32-1EP_5x5mm_P0.5mm_EP3.45x3.45mm; Datasheet: http://www.nxp.com/docs/en/data-sheet/KL05P48M48SF1.pdf
pins: 1 PTB6/IRQ_2/LPTMR0_ALT3, 2 PTB7/IRQ_3, 3 VDD, 4 VREFH, 5 VREFL, 6 VSS, 7 PTA3, 8 PTA4/LLWU_P0, 9 PTA5/LLWU_P1/RTC_CLK_IN, 10 PTA6/LLWU_P2, 11 PTB8, 12 PTB9, 13 PTB10, 14 PTB11, 15 PTA7/IRQ_7/LLWU_P3, 16 PTB0/IRQ_8/LLWU_P4, 17 PTB1/IRQ_9, 18 PTB2/IRQ_10/LLWU_P5, 19 PTA8, 20 PTA9, 21 PTA10/IRQ_12, 22 PTA11/IRQ_13, 23 PTB3/IRQ_14, 24 PTB4/IRQ_15/LLWU_P6, 25 PTB5/IRQ_16, 26 PTA12/IRQ_17/LPTMR0_ALT2, 27 PTA13, 28 PTB12, 29 PTB13, 30 PTA0/IRQ_0/LLWU_P7, 31 PTA1/IRQ_1/LPTMR0_ALT1, 32 PTA2, 33 EPAD

## MKL05Z8VLC4
designator *  value MKL05Z8VLC4  Reference: U
ki_keywords: Kinetis KL05 ARM Cortex M0+; ki_description: Kinetis KL05 series, 48-MHz/32-bit ARM Cortex-M0+, 8 kB flash, 1 kB SRAM, LQFP-32; ki_fp_filters: LQFP*7x7mm*P0.8mm*; Footprint: Package_QFP:LQFP-32_7x7mm_P0.8mm; Datasheet: http://www.nxp.com/docs/en/data-sheet/KL05P48M48SF1.pdf
pins: 1 PTB6/IRQ_2/LPTMR0_ALT3, 2 PTB7/IRQ_3, 3 VDD, 4 VREFH, 5 VREFL, 6 VSS, 7 PTA3, 8 PTA4/LLWU_P0, 9 PTA5/LLWU_P1/RTC_CLK_IN, 10 PTA6/LLWU_P2, 11 PTB8, 12 PTB9, 13 PTB10, 14 PTB11, 15 PTA7/IRQ_7/LLWU_P3, 16 PTB0/IRQ_8/LLWU_P4, 17 PTB1/IRQ_9, 18 PTB2/IRQ_10/LLWU_P5, 19 PTA8, 20 PTA9, 21 PTA10/IRQ_12, 22 PTA11/IRQ_13, 23 PTB3/IRQ_14, 24 PTB4/IRQ_15/LLWU_P6, 25 PTB5/IRQ_16, 26 PTA12/IRQ_17/LPTMR0_ALT2, 27 PTA13, 28 PTB12, 29 PTB13, 30 PTA0/IRQ_0/LLWU_P7, 31 PTA1/IRQ_1/LPTMR0_ALT1, 32 PTA2

## MKL05Z16VFK4
designator *  value MKL05Z16VFK4  Reference: U
ki_keywords: Kinetis KL05 ARM Cortex M0+; ki_description: Kinetis KL05 series, 48-MHz/32-bit ARM Cortex-M0+, 16 kB flash, 2 kB SRAM, QFN-24; ki_fp_filters: QFN*4x4mm*P0.5mm*; Footprint: Package_DFN_QFN:QFN-24-1EP_4x4mm_P0.5mm_EP2.6x2.6mm; Datasheet: http://www.nxp.com/docs/en/data-sheet/KL05P48M48SF1.pdf
pins: 1 PTB6/IRQ_2/LPTMR0_ALT3, 2 PTB7/IRQ_3, 3 VDD/VREFH, 4 VSS/VREFL, 5 PTA3, 6 PTA4/LLWU_P0, 7 PTA5/LLWU_P1/RTC_CLK_IN, 8 PTA6/LLWU_P2, 9 PTB10, 10 PTB11, 11 PTA7/IRQ_7/LLWU_P3, 12 PTB0/IRQ_8/LLWU_P4, 13 PTB1/IRQ_9, 14 PTB2/IRQ_10/LLWU_P5, 15 PTA8, 16 PTA9, 17 PTB3/IRQ_14, 18 PTB4/IRQ_15/LLWU_P6, 19 PTB5/IRQ_16, 20 PTA12/IRQ_17/LPTMR0_ALT2, 21 PTB13, 22 PTA0/IRQ_0/LLWU_P7, 23 PTA1/IRQ_1/LPTMR0_ALT1, 24 PTA2, 25 EPAD

## MKL05Z16VFM4
designator *  value MKL05Z16VFM4  Reference: U
ki_keywords: Kinetis KL05 ARM Cortex M0+; ki_description: Kinetis KL05 series, 48-MHz/32-bit ARM Cortex-M0+, 16 kB flash, 2 kB SRAM, QFN-32; ki_fp_filters: QFN*5x5mm*P0.5mm*; Footprint: Package_DFN_QFN:QFN-32-1EP_5x5mm_P0.5mm_EP3.45x3.45mm; Datasheet: http://www.nxp.com/docs/en/data-sheet/KL05P48M48SF1.pdf
pins: 1 PTB6/IRQ_2/LPTMR0_ALT3, 2 PTB7/IRQ_3, 3 VDD, 4 VREFH, 5 VREFL, 6 VSS, 7 PTA3, 8 PTA4/LLWU_P0, 9 PTA5/LLWU_P1/RTC_CLK_IN, 10 PTA6/LLWU_P2, 11 PTB8, 12 PTB9, 13 PTB10, 14 PTB11, 15 PTA7/IRQ_7/LLWU_P3, 16 PTB0/IRQ_8/LLWU_P4, 17 PTB1/IRQ_9, 18 PTB2/IRQ_10/LLWU_P5, 19 PTA8, 20 PTA9, 21 PTA10/IRQ_12, 22 PTA11/IRQ_13, 23 PTB3/IRQ_14, 24 PTB4/IRQ_15/LLWU_P6, 25 PTB5/IRQ_16, 26 PTA12/IRQ_17/LPTMR0_ALT2, 27 PTA13, 28 PTB12, 29 PTB13, 30 PTA0/IRQ_0/LLWU_P7, 31 PTA1/IRQ_1/LPTMR0_ALT1, 32 PTA2, 33 EPAD

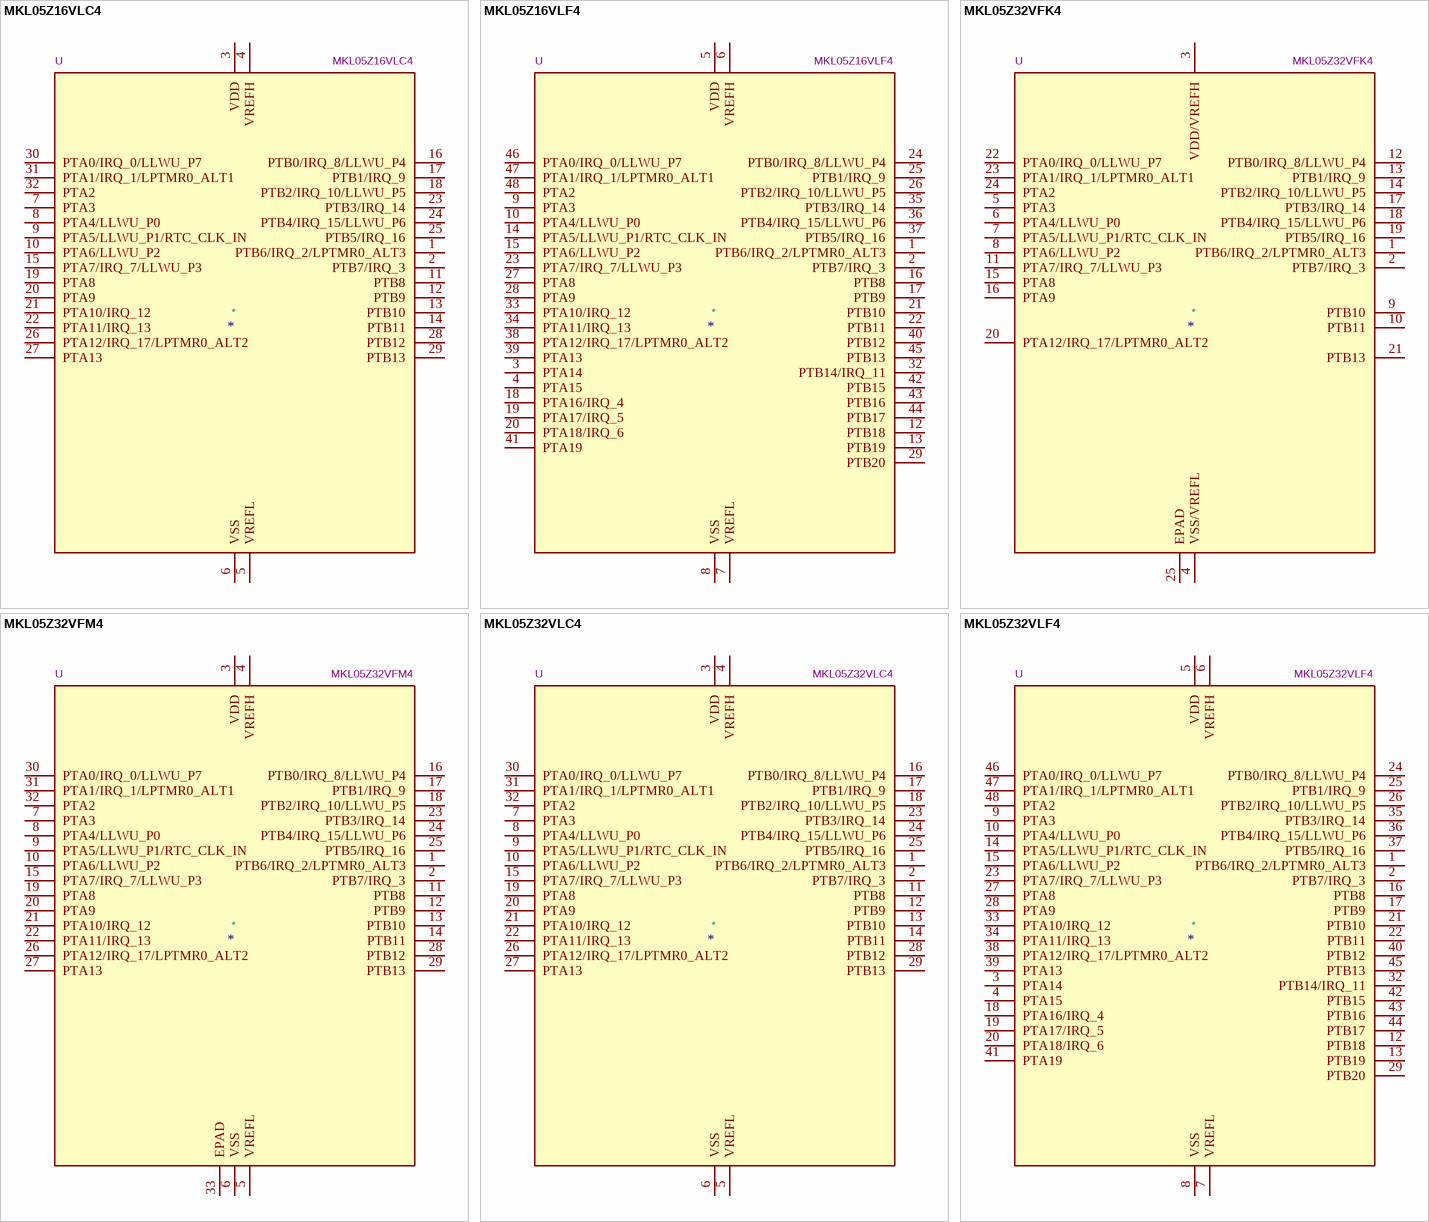
[diagram p8: symbols MKL05Z16VLC4 to MKL05Z32VLF4]

## MKL05Z16VLC4
designator *  value MKL05Z16VLC4  Reference: U
ki_keywords: Kinetis KL05 ARM Cortex M0+; ki_description: Kinetis KL05 series, 48-MHz/32-bit ARM Cortex-M0+, 16 kB flash, 2 kB SRAM, LQFP-32; ki_fp_filters: LQFP*7x7mm*P0.8mm*; Footprint: Package_QFP:LQFP-32_7x7mm_P0.8mm; Datasheet: http://www.nxp.com/docs/en/data-sheet/KL05P48M48SF1.pdf
pins: 1 PTB6/IRQ_2/LPTMR0_ALT3, 2 PTB7/IRQ_3, 3 VDD, 4 VREFH, 5 VREFL, 6 VSS, 7 PTA3, 8 PTA4/LLWU_P0, 9 PTA5/LLWU_P1/RTC_CLK_IN, 10 PTA6/LLWU_P2, 11 PTB8, 12 PTB9, 13 PTB10, 14 PTB11, 15 PTA7/IRQ_7/LLWU_P3, 16 PTB0/IRQ_8/LLWU_P4, 17 PTB1/IRQ_9, 18 PTB2/IRQ_10/LLWU_P5, 19 PTA8, 20 PTA9, 21 PTA10/IRQ_12, 22 PTA11/IRQ_13, 23 PTB3/IRQ_14, 24 PTB4/IRQ_15/LLWU_P6, 25 PTB5/IRQ_16, 26 PTA12/IRQ_17/LPTMR0_ALT2, 27 PTA13, 28 PTB12, 29 PTB13, 30 PTA0/IRQ_0/LLWU_P7, 31 PTA1/IRQ_1/LPTMR0_ALT1, 32 PTA2

## MKL05Z16VLF4
designator *  value MKL05Z16VLF4  Reference: U
ki_keywords: Kinetis KL05 ARM Cortex M0+; ki_description: Kinetis KL05 series, 48-MHz/32-bit ARM Cortex-M0+, 16 kB flash, 2 kB SRAM, LQFP-48; ki_fp_filters: LQFP*7x7mm*P0.5mm*; Footprint: Package_QFP:LQFP-48_7x7mm_P0.5mm; Datasheet: http://www.nxp.com/docs/en/data-sheet/KL05P48M48SF1.pdf
pins: 1 PTB6/IRQ_2/LPTMR0_ALT3, 2 PTB7/IRQ_3, 3 PTA14, 4 PTA15, 5 VDD, 6 VREFH, 7 VREFL, 8 VSS, 9 PTA3, 10 PTA4/LLWU_P0, 11 VSS hidden, 12 PTB18, 13 PTB19, 14 PTA5/LLWU_P1/RTC_CLK_IN, 15 PTA6/LLWU_P2, 16 PTB8, 17 PTB9, 18 PTA16/IRQ_4, 19 PTA17/IRQ_5, 20 PTA18/IRQ_6, 21 PTB10, 22 PTB11, 23 PTA7/IRQ_7/LLWU_P3, 24 PTB0/IRQ_8/LLWU_P4, 25 PTB1/IRQ_9, 26 PTB2/IRQ_10/LLWU_P5, 27 PTA8, 28 PTA9, 29 PTB20, 30 VSS hidden, 31 VDD hidden, 32 PTB14/IRQ_11, 33 PTA10/IRQ_12, 34 PTA11/IRQ_13, 35 PTB3/IRQ_14, 36 PTB4/IRQ_15/LLWU_P6, 37 PTB5/IRQ_16, 38 PTA12/IRQ_17/LPTMR0_ALT2, 39 PTA13, 40 PTB12, 41 PTA19, 42 PTB15, 43 PTB16, 44 PTB17, 45 PTB13, 46 PTA0/IRQ_0/LLWU_P7, 47 PTA1/IRQ_1/LPTMR0_ALT1, 48 PTA2

## MKL05Z32VFK4
designator *  value MKL05Z32VFK4  Reference: U
ki_keywords: Kinetis KL05 ARM Cortex M0+; ki_description: Kinetis KL05 series, 48-MHz/32-bit ARM Cortex-M0+, 32 kB flash, 4 kB SRAM, QFN-24; ki_fp_filters: QFN*4x4mm*P0.5mm*; Footprint: Package_DFN_QFN:QFN-24-1EP_4x4mm_P0.5mm_EP2.6x2.6mm; Datasheet: http://www.nxp.com/docs/en/data-sheet/KL05P48M48SF1.pdf
pins: 1 PTB6/IRQ_2/LPTMR0_ALT3, 2 PTB7/IRQ_3, 3 VDD/VREFH, 4 VSS/VREFL, 5 PTA3, 6 PTA4/LLWU_P0, 7 PTA5/LLWU_P1/RTC_CLK_IN, 8 PTA6/LLWU_P2, 9 PTB10, 10 PTB11, 11 PTA7/IRQ_7/LLWU_P3, 12 PTB0/IRQ_8/LLWU_P4, 13 PTB1/IRQ_9, 14 PTB2/IRQ_10/LLWU_P5, 15 PTA8, 16 PTA9, 17 PTB3/IRQ_14, 18 PTB4/IRQ_15/LLWU_P6, 19 PTB5/IRQ_16, 20 PTA12/IRQ_17/LPTMR0_ALT2, 21 PTB13, 22 PTA0/IRQ_0/LLWU_P7, 23 PTA1/IRQ_1/LPTMR0_ALT1, 24 PTA2, 25 EPAD